# Altium integrated library Actel 3200DX.IntLib: 18 symbols (part 1 of 2)
Pins are listed as number, name and electrical type; pins without a type are passive.

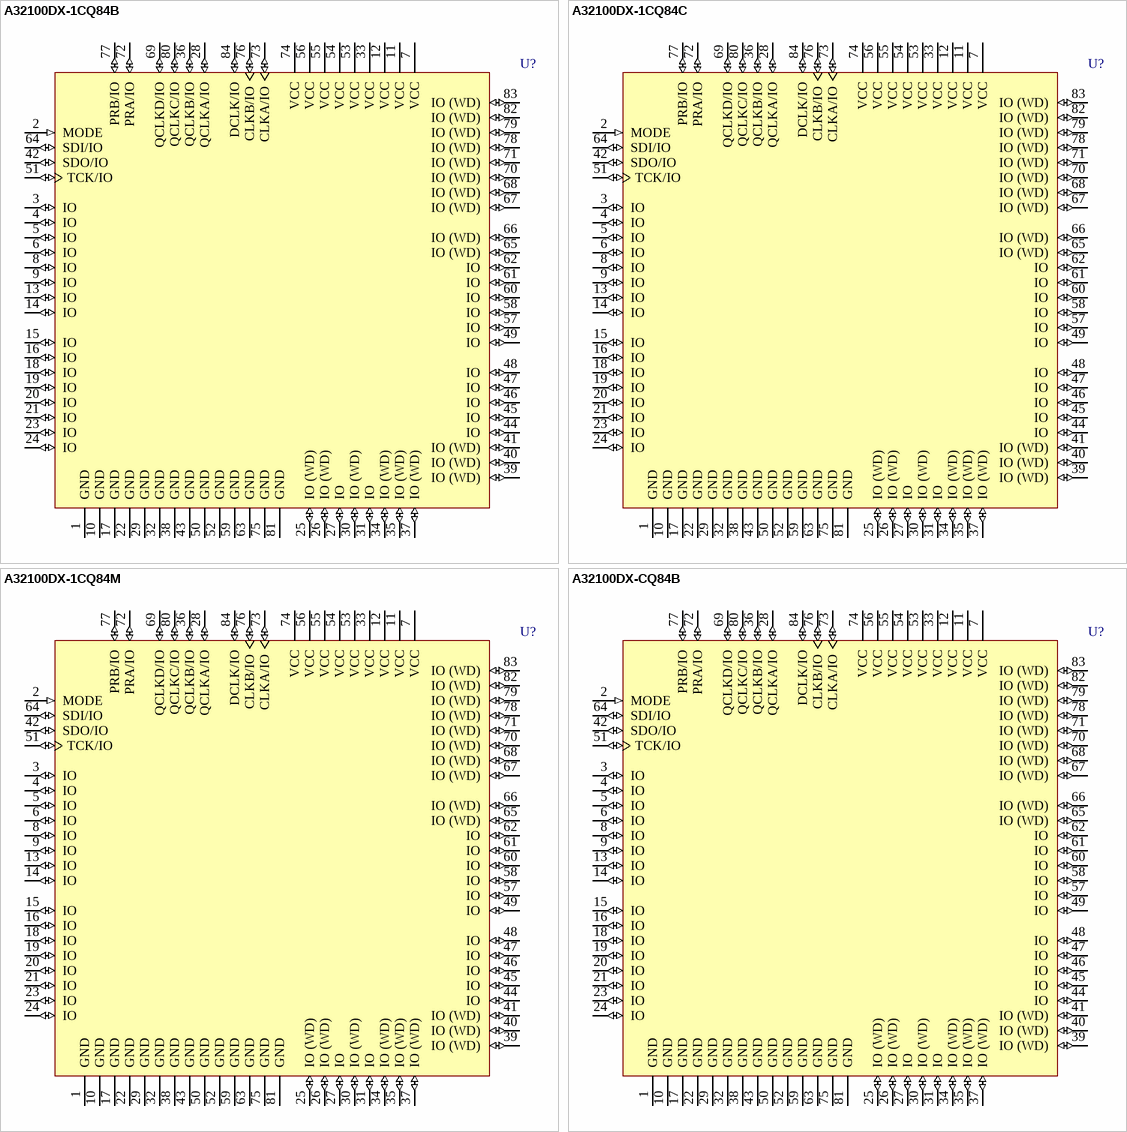
[diagram p0: symbols A32100DX-1CQ84B to A32100DX-CQ84B]

## A32100DX-1CQ84B
designator U?
3200DX Series FPGA, 60 User I/Os, 84 pin CQFP, Speed Grade 1, MIL-STD-883 Grade; Published: 17-Sep-2003; LatestRevisionDate: 13-Apr-2006; LatestRevisionNote: IPC-7351 Footprint Added.; DatasheetVersion: ver3.0, Jan-2000; PackageVersion: v9.2, Apr-2006; PackageReference: CQ84; Publisher: Altium Limited; PackageDescription: 84-Pin Ceramic Quad Flat Pack (CQFP); ComponentLink1Description: Manufacturer Link; ComponentLink1URL: http://www.actel.com/; ComponentLink2Description: Datasheet; ComponentLink2URL: http://www.actel.com/documents/HIRELDS.pdf
footprint CQ84_N (CQFP, 84-Leads, Body 16.5x16.5mm; Pitch 0.635mm, Gullwing Leadform, IPC Medium Density)
footprint CQ84_L (CQFP, 84-Leads, Body 16.5x16.5mm; Pitch 0.635mm, Gullwing Leadform, IPC High Density)
footprint CQ84_M (CQFP, 84-Leads, Body 16.5x16.5mm; Pitch 0.635mm, Gullwing Leadform, IPC Low Density)
3D model A32100DX-CQ84 (84-Pin Ceramic Quad Flat Pack (CQFP))
pins: 1 GND (power), 2 MODE (in), 3 IO (io), 4 IO (io), 5 IO (io), 6 IO (io), 7 VCC (power), 8 IO (io), 9 IO (io), 10 GND (power), 11 VCC (power), 12 VCC (power), 13 IO (io), 14 IO (io), 15 IO (io), 16 IO (io), 17 GND (power), 18 IO (io), 19 IO (io), 20 IO (io), 21 IO (io), 22 GND (power), 23 IO (io), 24 IO (io), 25 IO (WD) (io), 26 IO (WD) (io), 27 IO (io), 28 QCLKA/IO (io), 29 GND (power), 30 IO (WD) (io), 31 IO (io), 32 GND (power), 33 VCC (power), 34 IO (WD) (io), 35 IO (WD) (io), 36 QCLKB/IO (io), 37 IO (WD) (io), 38 GND (power), 39 IO (WD) (io), 40 IO (WD) (io), 41 IO (WD) (io), 42 SDO/IO (io), 43 GND (power), 44 IO (io), 45 IO (io), 46 IO (io), 47 IO (io), 48 IO (io), 49 IO (io), 50 GND (power), 51 TCK/IO (io), 52 GND (power), 53 VCC (power), 54 VCC (power), 55 VCC (power), 56 VCC (power), 57 IO (io), 58 IO (io), 59 GND (power), 60 IO (io), 61 IO (io), 62 IO (io), 63 GND (power), 64 SDI/IO (io), 65 IO (WD) (io), 66 IO (WD) (io), 67 IO (WD) (io), 68 IO (WD) (io), 69 QCLKD/IO (io), 70 IO (WD) (io), 71 IO (WD) (io), 72 PRA/IO (io), 73 CLKA/IO (io), 74 VCC (power), 75 GND (power), 76 CLKB/IO (io), 77 PRB/IO (io), 78 IO (WD) (io), 79 IO (WD) (io), 80 QCLKC/IO (io), 81 GND (power), 82 IO (WD) (io), 83 IO (WD) (io), 84 DCLK/IO (io)

## A32100DX-1CQ84C
designator U?
3200DX Series FPGA, 60 User I/Os, 84 pin CQFP, Speed Grade 1, Commercial Grade; Published: 17-Sep-2003; LatestRevisionDate: 13-Apr-2006; LatestRevisionNote: IPC-7351 Footprint Added.; DatasheetVersion: ver3.0, Jan-2000; PackageVersion: v9.2, Apr-2006; PackageReference: CQ84; Publisher: Altium Limited; PackageDescription: 84-Pin Ceramic Quad Flat Pack (CQFP); ComponentLink1Description: Manufacturer Link; ComponentLink1URL: http://www.actel.com/; ComponentLink2Description: Datasheet; ComponentLink2URL: http://www.actel.com/documents/HIRELDS.pdf
footprint CQ84_N (CQFP, 84-Leads, Body 16.5x16.5mm; Pitch 0.635mm, Gullwing Leadform, IPC Medium Density)
footprint CQ84_L (CQFP, 84-Leads, Body 16.5x16.5mm; Pitch 0.635mm, Gullwing Leadform, IPC High Density)
footprint CQ84_M (CQFP, 84-Leads, Body 16.5x16.5mm; Pitch 0.635mm, Gullwing Leadform, IPC Low Density)
3D model A32100DX-CQ84 (84-Pin Ceramic Quad Flat Pack (CQFP))
pins: 1 GND (power), 2 MODE (in), 3 IO (io), 4 IO (io), 5 IO (io), 6 IO (io), 7 VCC (power), 8 IO (io), 9 IO (io), 10 GND (power), 11 VCC (power), 12 VCC (power), 13 IO (io), 14 IO (io), 15 IO (io), 16 IO (io), 17 GND (power), 18 IO (io), 19 IO (io), 20 IO (io), 21 IO (io), 22 GND (power), 23 IO (io), 24 IO (io), 25 IO (WD) (io), 26 IO (WD) (io), 27 IO (io), 28 QCLKA/IO (io), 29 GND (power), 30 IO (WD) (io), 31 IO (io), 32 GND (power), 33 VCC (power), 34 IO (WD) (io), 35 IO (WD) (io), 36 QCLKB/IO (io), 37 IO (WD) (io), 38 GND (power), 39 IO (WD) (io), 40 IO (WD) (io), 41 IO (WD) (io), 42 SDO/IO (io), 43 GND (power), 44 IO (io), 45 IO (io), 46 IO (io), 47 IO (io), 48 IO (io), 49 IO (io), 50 GND (power), 51 TCK/IO (io), 52 GND (power), 53 VCC (power), 54 VCC (power), 55 VCC (power), 56 VCC (power), 57 IO (io), 58 IO (io), 59 GND (power), 60 IO (io), 61 IO (io), 62 IO (io), 63 GND (power), 64 SDI/IO (io), 65 IO (WD) (io), 66 IO (WD) (io), 67 IO (WD) (io), 68 IO (WD) (io), 69 QCLKD/IO (io), 70 IO (WD) (io), 71 IO (WD) (io), 72 PRA/IO (io), 73 CLKA/IO (io), 74 VCC (power), 75 GND (power), 76 CLKB/IO (io), 77 PRB/IO (io), 78 IO (WD) (io), 79 IO (WD) (io), 80 QCLKC/IO (io), 81 GND (power), 82 IO (WD) (io), 83 IO (WD) (io), 84 DCLK/IO (io)

## A32100DX-1CQ84M
designator U?
3200DX Series FPGA, 60 User I/Os, 84 pin CQFP, Speed Grade 1, Military Grade; Published: 17-Sep-2003; LatestRevisionDate: 13-Apr-2006; LatestRevisionNote: IPC-7351 Footprint Added.; DatasheetVersion: ver3.0, Jan-2000; PackageVersion: v9.2, Apr-2006; PackageReference: CQ84; Publisher: Altium Limited; PackageDescription: 84-Pin Ceramic Quad Flat Pack (CQFP); ComponentLink1Description: Manufacturer Link; ComponentLink1URL: http://www.actel.com/; ComponentLink2Description: Datasheet; ComponentLink2URL: http://www.actel.com/documents/HIRELDS.pdf
footprint CQ84_N (CQFP, 84-Leads, Body 16.5x16.5mm; Pitch 0.635mm, Gullwing Leadform, IPC Medium Density)
footprint CQ84_L (CQFP, 84-Leads, Body 16.5x16.5mm; Pitch 0.635mm, Gullwing Leadform, IPC High Density)
footprint CQ84_M (CQFP, 84-Leads, Body 16.5x16.5mm; Pitch 0.635mm, Gullwing Leadform, IPC Low Density)
3D model A32100DX-CQ84 (84-Pin Ceramic Quad Flat Pack (CQFP))
pins: 1 GND (power), 2 MODE (in), 3 IO (io), 4 IO (io), 5 IO (io), 6 IO (io), 7 VCC (power), 8 IO (io), 9 IO (io), 10 GND (power), 11 VCC (power), 12 VCC (power), 13 IO (io), 14 IO (io), 15 IO (io), 16 IO (io), 17 GND (power), 18 IO (io), 19 IO (io), 20 IO (io), 21 IO (io), 22 GND (power), 23 IO (io), 24 IO (io), 25 IO (WD) (io), 26 IO (WD) (io), 27 IO (io), 28 QCLKA/IO (io), 29 GND (power), 30 IO (WD) (io), 31 IO (io), 32 GND (power), 33 VCC (power), 34 IO (WD) (io), 35 IO (WD) (io), 36 QCLKB/IO (io), 37 IO (WD) (io), 38 GND (power), 39 IO (WD) (io), 40 IO (WD) (io), 41 IO (WD) (io), 42 SDO/IO (io), 43 GND (power), 44 IO (io), 45 IO (io), 46 IO (io), 47 IO (io), 48 IO (io), 49 IO (io), 50 GND (power), 51 TCK/IO (io), 52 GND (power), 53 VCC (power), 54 VCC (power), 55 VCC (power), 56 VCC (power), 57 IO (io), 58 IO (io), 59 GND (power), 60 IO (io), 61 IO (io), 62 IO (io), 63 GND (power), 64 SDI/IO (io), 65 IO (WD) (io), 66 IO (WD) (io), 67 IO (WD) (io), 68 IO (WD) (io), 69 QCLKD/IO (io), 70 IO (WD) (io), 71 IO (WD) (io), 72 PRA/IO (io), 73 CLKA/IO (io), 74 VCC (power), 75 GND (power), 76 CLKB/IO (io), 77 PRB/IO (io), 78 IO (WD) (io), 79 IO (WD) (io), 80 QCLKC/IO (io), 81 GND (power), 82 IO (WD) (io), 83 IO (WD) (io), 84 DCLK/IO (io)

## A32100DX-CQ84B
designator U?
3200DX Series FPGA, 60 User I/Os, 84 pin CQFP, Standard Speed Grade, MIL-STD-883 Grade; Published: 17-Sep-2003; LatestRevisionDate: 13-Apr-2006; LatestRevisionNote: IPC-7351 Footprint Added.; DatasheetVersion: ver3.0, Jan-2000; PackageVersion: v9.2, Apr-2006; PackageReference: CQ84; Publisher: Altium Limited; PackageDescription: 84-Pin Ceramic Quad Flat Pack (CQFP); ComponentLink1Description: Manufacturer Link; ComponentLink1URL: http://www.actel.com/; ComponentLink2Description: Datasheet; ComponentLink2URL: http://www.actel.com/documents/HIRELDS.pdf
footprint CQ84_N (CQFP, 84-Leads, Body 16.5x16.5mm; Pitch 0.635mm, Gullwing Leadform, IPC Medium Density)
footprint CQ84_L (CQFP, 84-Leads, Body 16.5x16.5mm; Pitch 0.635mm, Gullwing Leadform, IPC High Density)
footprint CQ84_M (CQFP, 84-Leads, Body 16.5x16.5mm; Pitch 0.635mm, Gullwing Leadform, IPC Low Density)
3D model A32100DX-CQ84 (84-Pin Ceramic Quad Flat Pack (CQFP))
pins: 1 GND (power), 2 MODE (in), 3 IO (io), 4 IO (io), 5 IO (io), 6 IO (io), 7 VCC (power), 8 IO (io), 9 IO (io), 10 GND (power), 11 VCC (power), 12 VCC (power), 13 IO (io), 14 IO (io), 15 IO (io), 16 IO (io), 17 GND (power), 18 IO (io), 19 IO (io), 20 IO (io), 21 IO (io), 22 GND (power), 23 IO (io), 24 IO (io), 25 IO (WD) (io), 26 IO (WD) (io), 27 IO (io), 28 QCLKA/IO (io), 29 GND (power), 30 IO (WD) (io), 31 IO (io), 32 GND (power), 33 VCC (power), 34 IO (WD) (io), 35 IO (WD) (io), 36 QCLKB/IO (io), 37 IO (WD) (io), 38 GND (power), 39 IO (WD) (io), 40 IO (WD) (io), 41 IO (WD) (io), 42 SDO/IO (io), 43 GND (power), 44 IO (io), 45 IO (io), 46 IO (io), 47 IO (io), 48 IO (io), 49 IO (io), 50 GND (power), 51 TCK/IO (io), 52 GND (power), 53 VCC (power), 54 VCC (power), 55 VCC (power), 56 VCC (power), 57 IO (io), 58 IO (io), 59 GND (power), 60 IO (io), 61 IO (io), 62 IO (io), 63 GND (power), 64 SDI/IO (io), 65 IO (WD) (io), 66 IO (WD) (io), 67 IO (WD) (io), 68 IO (WD) (io), 69 QCLKD/IO (io), 70 IO (WD) (io), 71 IO (WD) (io), 72 PRA/IO (io), 73 CLKA/IO (io), 74 VCC (power), 75 GND (power), 76 CLKB/IO (io), 77 PRB/IO (io), 78 IO (WD) (io), 79 IO (WD) (io), 80 QCLKC/IO (io), 81 GND (power), 82 IO (WD) (io), 83 IO (WD) (io), 84 DCLK/IO (io)

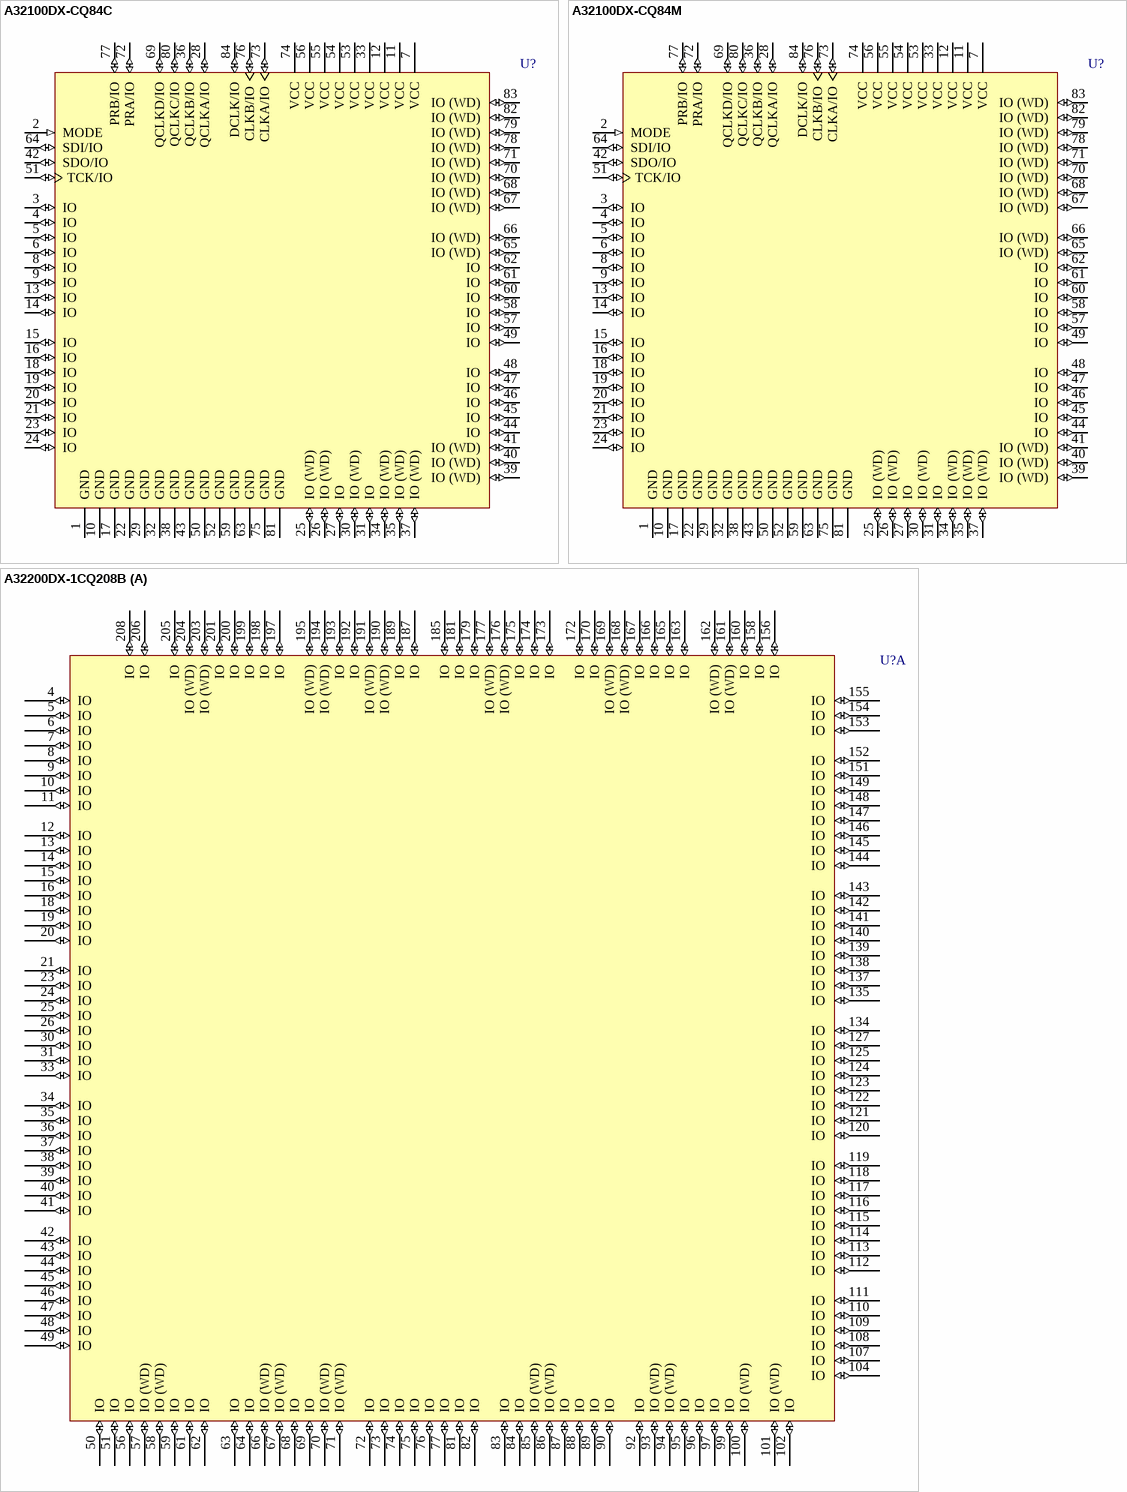
[diagram p1: symbols A32100DX-CQ84C to A32200DX-1CQ208B]

## A32100DX-CQ84C
designator U?
3200DX Series FPGA, 60 User I/Os, 84 pin CQFP, Standard Speed Grade, Commercial Grade; Published: 17-Sep-2003; LatestRevisionDate: 13-Apr-2006; LatestRevisionNote: IPC-7351 Footprint Added.; DatasheetVersion: ver3.0, Jan-2000; PackageVersion: v9.2, Apr-2006; PackageReference: CQ84; Publisher: Altium Limited; PackageDescription: 84-Pin Ceramic Quad Flat Pack (CQFP); ComponentLink1Description: Manufacturer Link; ComponentLink1URL: http://www.actel.com/; ComponentLink2Description: Datasheet; ComponentLink2URL: http://www.actel.com/documents/HIRELDS.pdf
footprint CQ84_N (CQFP, 84-Leads, Body 16.5x16.5mm; Pitch 0.635mm, Gullwing Leadform, IPC Medium Density)
footprint CQ84_L (CQFP, 84-Leads, Body 16.5x16.5mm; Pitch 0.635mm, Gullwing Leadform, IPC High Density)
footprint CQ84_M (CQFP, 84-Leads, Body 16.5x16.5mm; Pitch 0.635mm, Gullwing Leadform, IPC Low Density)
3D model A32100DX-CQ84 (84-Pin Ceramic Quad Flat Pack (CQFP))
pins: 1 GND (power), 2 MODE (in), 3 IO (io), 4 IO (io), 5 IO (io), 6 IO (io), 7 VCC (power), 8 IO (io), 9 IO (io), 10 GND (power), 11 VCC (power), 12 VCC (power), 13 IO (io), 14 IO (io), 15 IO (io), 16 IO (io), 17 GND (power), 18 IO (io), 19 IO (io), 20 IO (io), 21 IO (io), 22 GND (power), 23 IO (io), 24 IO (io), 25 IO (WD) (io), 26 IO (WD) (io), 27 IO (io), 28 QCLKA/IO (io), 29 GND (power), 30 IO (WD) (io), 31 IO (io), 32 GND (power), 33 VCC (power), 34 IO (WD) (io), 35 IO (WD) (io), 36 QCLKB/IO (io), 37 IO (WD) (io), 38 GND (power), 39 IO (WD) (io), 40 IO (WD) (io), 41 IO (WD) (io), 42 SDO/IO (io), 43 GND (power), 44 IO (io), 45 IO (io), 46 IO (io), 47 IO (io), 48 IO (io), 49 IO (io), 50 GND (power), 51 TCK/IO (io), 52 GND (power), 53 VCC (power), 54 VCC (power), 55 VCC (power), 56 VCC (power), 57 IO (io), 58 IO (io), 59 GND (power), 60 IO (io), 61 IO (io), 62 IO (io), 63 GND (power), 64 SDI/IO (io), 65 IO (WD) (io), 66 IO (WD) (io), 67 IO (WD) (io), 68 IO (WD) (io), 69 QCLKD/IO (io), 70 IO (WD) (io), 71 IO (WD) (io), 72 PRA/IO (io), 73 CLKA/IO (io), 74 VCC (power), 75 GND (power), 76 CLKB/IO (io), 77 PRB/IO (io), 78 IO (WD) (io), 79 IO (WD) (io), 80 QCLKC/IO (io), 81 GND (power), 82 IO (WD) (io), 83 IO (WD) (io), 84 DCLK/IO (io)

## A32100DX-CQ84M
designator U?
3200DX Series FPGA, 60 User I/Os, 84 pin CQFP, Standard Speed Grade, Military Grade; Published: 17-Sep-2003; LatestRevisionDate: 13-Apr-2006; LatestRevisionNote: IPC-7351 Footprint Added.; DatasheetVersion: ver3.0, Jan-2000; PackageVersion: v9.2, Apr-2006; PackageReference: CQ84; Publisher: Altium Limited; PackageDescription: 84-Pin Ceramic Quad Flat Pack (CQFP); ComponentLink1Description: Manufacturer Link; ComponentLink1URL: http://www.actel.com/; ComponentLink2Description: Datasheet; ComponentLink2URL: http://www.actel.com/documents/HIRELDS.pdf
footprint CQ84_N (CQFP, 84-Leads, Body 16.5x16.5mm; Pitch 0.635mm, Gullwing Leadform, IPC Medium Density)
footprint CQ84_L (CQFP, 84-Leads, Body 16.5x16.5mm; Pitch 0.635mm, Gullwing Leadform, IPC High Density)
footprint CQ84_M (CQFP, 84-Leads, Body 16.5x16.5mm; Pitch 0.635mm, Gullwing Leadform, IPC Low Density)
3D model A32100DX-CQ84 (84-Pin Ceramic Quad Flat Pack (CQFP))
pins: 1 GND (power), 2 MODE (in), 3 IO (io), 4 IO (io), 5 IO (io), 6 IO (io), 7 VCC (power), 8 IO (io), 9 IO (io), 10 GND (power), 11 VCC (power), 12 VCC (power), 13 IO (io), 14 IO (io), 15 IO (io), 16 IO (io), 17 GND (power), 18 IO (io), 19 IO (io), 20 IO (io), 21 IO (io), 22 GND (power), 23 IO (io), 24 IO (io), 25 IO (WD) (io), 26 IO (WD) (io), 27 IO (io), 28 QCLKA/IO (io), 29 GND (power), 30 IO (WD) (io), 31 IO (io), 32 GND (power), 33 VCC (power), 34 IO (WD) (io), 35 IO (WD) (io), 36 QCLKB/IO (io), 37 IO (WD) (io), 38 GND (power), 39 IO (WD) (io), 40 IO (WD) (io), 41 IO (WD) (io), 42 SDO/IO (io), 43 GND (power), 44 IO (io), 45 IO (io), 46 IO (io), 47 IO (io), 48 IO (io), 49 IO (io), 50 GND (power), 51 TCK/IO (io), 52 GND (power), 53 VCC (power), 54 VCC (power), 55 VCC (power), 56 VCC (power), 57 IO (io), 58 IO (io), 59 GND (power), 60 IO (io), 61 IO (io), 62 IO (io), 63 GND (power), 64 SDI/IO (io), 65 IO (WD) (io), 66 IO (WD) (io), 67 IO (WD) (io), 68 IO (WD) (io), 69 QCLKD/IO (io), 70 IO (WD) (io), 71 IO (WD) (io), 72 PRA/IO (io), 73 CLKA/IO (io), 74 VCC (power), 75 GND (power), 76 CLKB/IO (io), 77 PRB/IO (io), 78 IO (WD) (io), 79 IO (WD) (io), 80 QCLKC/IO (io), 81 GND (power), 82 IO (WD) (io), 83 IO (WD) (io), 84 DCLK/IO (io)

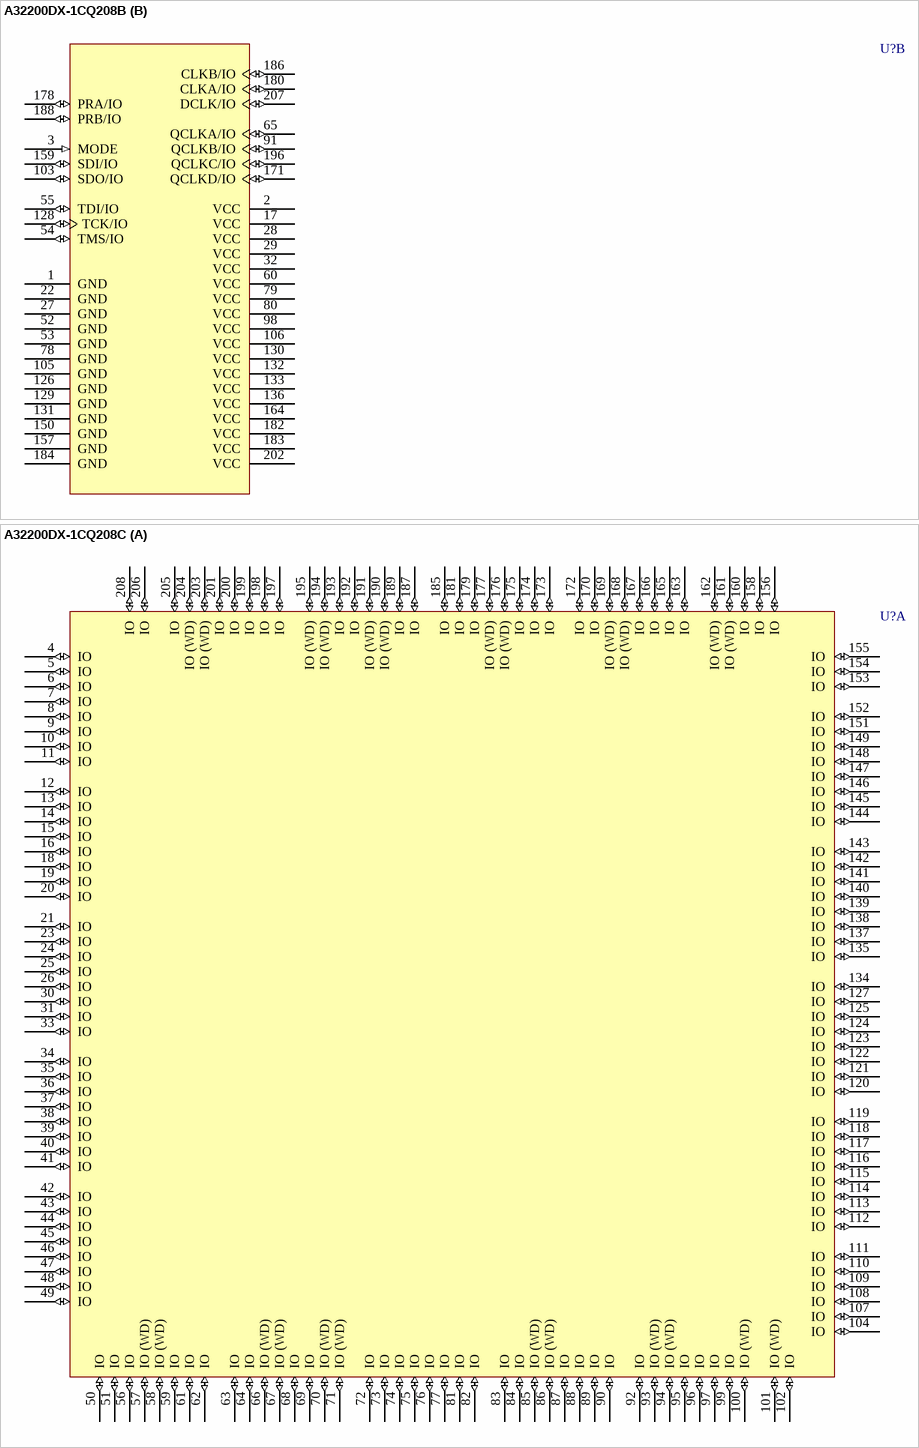
[diagram p2: symbols A32200DX-1CQ208B to A32200DX-1CQ208C]

## A32200DX-1CQ208B
designator U?
3200DX Series FPGA, 176 User I/Os, 208 pin CQFP, Speed Grade 1, MIL-STD-883 Grade; Published: 17-Sep-2003; LatestRevisionDate: 13-Apr-2006; LatestRevisionNote: IPC-7351 Footprint Added.; DatasheetVersion: ver3.0, Jan-2000; PackageVersion: v9.2, Apr-2006; PackageReference: CQ208; Publisher: Altium Limited; PackageDescription: 208-Pin Ceramic Quad Flat Pack (CQFP); ComponentLink1Description: Manufacturer Link; ComponentLink1URL: http://www.actel.com/; ComponentLink2Description: Datasheet; ComponentLink2URL: http://www.actel.com/documents/HIRELDS.pdf
footprint CQ208_N (CQFP, 208-Leads, Body 29x29mm; Pitch 0.5mm, Gullwing Leadform, IPC Medium Density)
footprint CQ208_L (CQFP, 208-Leads, Body 29x29mm; Pitch 0.5mm, Gullwing Leadform, IPC High Density)
footprint CQ208_M (CQFP, 208-Leads, Body 29x29mm; Pitch 0.5mm, Gullwing Leadform, IPC Low Density)
3D model A32200DX-CQ208 (208-Pin Ceramic Quad Flat Pack (CQFP))
part A pins: 4 IO (io), 5 IO (io), 6 IO (io), 7 IO (io), 8 IO (io), 9 IO (io), 10 IO (io), 11 IO (io), 12 IO (io), 13 IO (io), 14 IO (io), 15 IO (io), 16 IO (io), 18 IO (io), 19 IO (io), 20 IO (io), 21 IO (io), 23 IO (io), 24 IO (io), 25 IO (io), 26 IO (io), 30 IO (io), 31 IO (io), 33 IO (io), 34 IO (io), 35 IO (io), 36 IO (io), 37 IO (io), 38 IO (io), 39 IO (io), 40 IO (io), 41 IO (io), 42 IO (io), 43 IO (io), 44 IO (io), 45 IO (io), 46 IO (io), 47 IO (io), 48 IO (io), 49 IO (io), 50 IO (io), 51 IO (io), 56 IO (io), 57 IO (WD) (io), 58 IO (WD) (io), 59 IO (io), 61 IO (io), 62 IO (io), 63 IO (io), 64 IO (io), 66 IO (WD) (io), 67 IO (WD) (io), 68 IO (io), 69 IO (io), 70 IO (WD) (io), 71 IO (WD) (io), 72 IO (io), 73 IO (io), 74 IO (io), 75 IO (io), 76 IO (io), 77 IO (io), 81 IO (io), 82 IO (io), 83 IO (io), 84 IO (io), 85 IO (WD) (io), 86 IO (WD) (io), 87 IO (io), 88 IO (io), 89 IO (io), 90 IO (io), 92 IO (io), 93 IO (WD) (io), 94 IO (WD) (io), 95 IO (io), 96 IO (io), 97 IO (io), 99 IO (io), 100 IO (WD) (io), 101 IO (WD) (io), 102 IO (io), 104 IO (io), 107 IO (io), 108 IO (io), 109 IO (io), 110 IO (io), 111 IO (io), 112 IO (io), 113 IO (io), 114 IO (io), 115 IO (io), 116 IO (io), 117 IO (io), 118 IO (io), 119 IO (io), 120 IO (io), 121 IO (io), 122 IO (io), 123 IO (io), 124 IO (io), 125 IO (io), 127 IO (io), 134 IO (io), 135 IO (io), 137 IO (io), 138 IO (io), 139 IO (io), 140 IO (io), 141 IO (io), 142 IO (io), 143 IO (io), 144 IO (io), 145 IO (io), 146 IO (io), 147 IO (io), 148 IO (io), 149 IO (io), 151 IO (io), 152 IO (io), 153 IO (io), 154 IO (io), 155 IO (io), 156 IO (io), 158 IO (io), 160 IO (io), 161 IO (WD) (io), 162 IO (WD) (io), 163 IO (io), 165 IO (io), 166 IO (io), 167 IO (io), 168 IO (WD) (io), 169 IO (WD) (io), 170 IO (io), 172 IO (io), 173 IO (io), 174 IO (io), 175 IO (io), 176 IO (WD) (io), 177 IO (WD) (io), 179 IO (io), 181 IO (io), 185 IO (io), 187 IO (io), 189 IO (io), 190 IO (WD) (io), 191 IO (WD) (io), 192 IO (io), 193 IO (io), 194 IO (WD) (io), 195 IO (WD) (io), 197 IO (io), 198 IO (io), 199 IO (io), 200 IO (io), 201 IO (io), 203 IO (WD) (io), 204 IO (WD) (io), 205 IO (io), 206 IO (io), 208 IO (io)
part B pins: 1 GND (power), 2 VCC (power), 3 MODE (in), 17 VCC (power), 22 GND (power), 27 GND (power), 28 VCC (power), 29 VCC (power), 32 VCC (power), 52 GND (power), 53 GND (power), 54 TMS/IO (io), 55 TDI/IO (io), 60 VCC (power), 65 QCLKA/IO (io), 78 GND (power), 79 VCC (power), 80 VCC (power), 91 QCLKB/IO (io), 98 VCC (power), 103 SDO/IO (io), 105 GND (power), 106 VCC (power), 126 GND (power), 128 TCK/IO (io), 129 GND (power), 130 VCC (power), 131 GND (power), 132 VCC (power), 133 VCC (power), 136 VCC (power), 150 GND (power), 157 GND (power), 159 SDI/IO (io), 164 VCC (power), 171 QCLKD/IO (io), 178 PRA/IO (io), 180 CLKA/IO (io), 182 VCC (power), 183 VCC (power), 184 GND (power), 186 CLKB/IO (io), 188 PRB/IO (io), 196 QCLKC/IO (io), 202 VCC (power), 207 DCLK/IO (io)

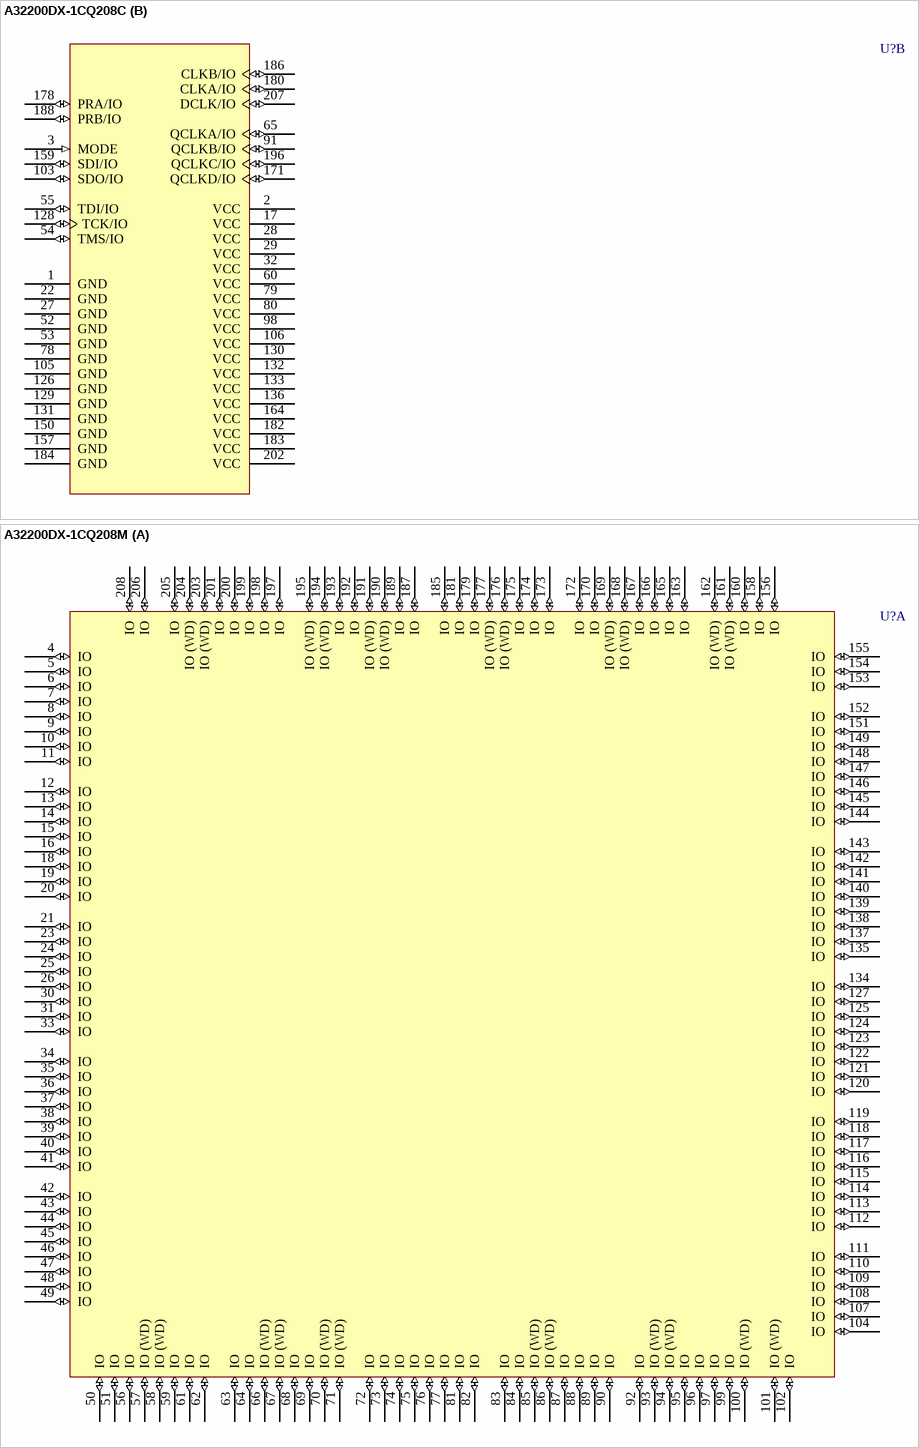
[diagram p3: symbols A32200DX-1CQ208C to A32200DX-1CQ208M]

## A32200DX-1CQ208C
designator U?
3200DX Series FPGA, 176 User I/Os, 208 pin CQFP, Speed Grade 1, Commercial Grade; Published: 17-Sep-2003; LatestRevisionDate: 13-Apr-2006; LatestRevisionNote: IPC-7351 Footprint Added.; DatasheetVersion: ver3.0, Jan-2000; PackageVersion: v9.2, Apr-2006; PackageReference: CQ208; Publisher: Altium Limited; PackageDescription: 208-Pin Ceramic Quad Flat Pack (CQFP); ComponentLink1Description: Manufacturer Link; ComponentLink1URL: http://www.actel.com/; ComponentLink2Description: Datasheet; ComponentLink2URL: http://www.actel.com/documents/HIRELDS.pdf
footprint CQ208_N (CQFP, 208-Leads, Body 29x29mm; Pitch 0.5mm, Gullwing Leadform, IPC Medium Density)
footprint CQ208_L (CQFP, 208-Leads, Body 29x29mm; Pitch 0.5mm, Gullwing Leadform, IPC High Density)
footprint CQ208_M (CQFP, 208-Leads, Body 29x29mm; Pitch 0.5mm, Gullwing Leadform, IPC Low Density)
3D model A32200DX-CQ208 (208-Pin Ceramic Quad Flat Pack (CQFP))
part A pins: 4 IO (io), 5 IO (io), 6 IO (io), 7 IO (io), 8 IO (io), 9 IO (io), 10 IO (io), 11 IO (io), 12 IO (io), 13 IO (io), 14 IO (io), 15 IO (io), 16 IO (io), 18 IO (io), 19 IO (io), 20 IO (io), 21 IO (io), 23 IO (io), 24 IO (io), 25 IO (io), 26 IO (io), 30 IO (io), 31 IO (io), 33 IO (io), 34 IO (io), 35 IO (io), 36 IO (io), 37 IO (io), 38 IO (io), 39 IO (io), 40 IO (io), 41 IO (io), 42 IO (io), 43 IO (io), 44 IO (io), 45 IO (io), 46 IO (io), 47 IO (io), 48 IO (io), 49 IO (io), 50 IO (io), 51 IO (io), 56 IO (io), 57 IO (WD) (io), 58 IO (WD) (io), 59 IO (io), 61 IO (io), 62 IO (io), 63 IO (io), 64 IO (io), 66 IO (WD) (io), 67 IO (WD) (io), 68 IO (io), 69 IO (io), 70 IO (WD) (io), 71 IO (WD) (io), 72 IO (io), 73 IO (io), 74 IO (io), 75 IO (io), 76 IO (io), 77 IO (io), 81 IO (io), 82 IO (io), 83 IO (io), 84 IO (io), 85 IO (WD) (io), 86 IO (WD) (io), 87 IO (io), 88 IO (io), 89 IO (io), 90 IO (io), 92 IO (io), 93 IO (WD) (io), 94 IO (WD) (io), 95 IO (io), 96 IO (io), 97 IO (io), 99 IO (io), 100 IO (WD) (io), 101 IO (WD) (io), 102 IO (io), 104 IO (io), 107 IO (io), 108 IO (io), 109 IO (io), 110 IO (io), 111 IO (io), 112 IO (io), 113 IO (io), 114 IO (io), 115 IO (io), 116 IO (io), 117 IO (io), 118 IO (io), 119 IO (io), 120 IO (io), 121 IO (io), 122 IO (io), 123 IO (io), 124 IO (io), 125 IO (io), 127 IO (io), 134 IO (io), 135 IO (io), 137 IO (io), 138 IO (io), 139 IO (io), 140 IO (io), 141 IO (io), 142 IO (io), 143 IO (io), 144 IO (io), 145 IO (io), 146 IO (io), 147 IO (io), 148 IO (io), 149 IO (io), 151 IO (io), 152 IO (io), 153 IO (io), 154 IO (io), 155 IO (io), 156 IO (io), 158 IO (io), 160 IO (io), 161 IO (WD) (io), 162 IO (WD) (io), 163 IO (io), 165 IO (io), 166 IO (io), 167 IO (io), 168 IO (WD) (io), 169 IO (WD) (io), 170 IO (io), 172 IO (io), 173 IO (io), 174 IO (io), 175 IO (io), 176 IO (WD) (io), 177 IO (WD) (io), 179 IO (io), 181 IO (io), 185 IO (io), 187 IO (io), 189 IO (io), 190 IO (WD) (io), 191 IO (WD) (io), 192 IO (io), 193 IO (io), 194 IO (WD) (io), 195 IO (WD) (io), 197 IO (io), 198 IO (io), 199 IO (io), 200 IO (io), 201 IO (io), 203 IO (WD) (io), 204 IO (WD) (io), 205 IO (io), 206 IO (io), 208 IO (io)
part B pins: 1 GND (power), 2 VCC (power), 3 MODE (in), 17 VCC (power), 22 GND (power), 27 GND (power), 28 VCC (power), 29 VCC (power), 32 VCC (power), 52 GND (power), 53 GND (power), 54 TMS/IO (io), 55 TDI/IO (io), 60 VCC (power), 65 QCLKA/IO (io), 78 GND (power), 79 VCC (power), 80 VCC (power), 91 QCLKB/IO (io), 98 VCC (power), 103 SDO/IO (io), 105 GND (power), 106 VCC (power), 126 GND (power), 128 TCK/IO (io), 129 GND (power), 130 VCC (power), 131 GND (power), 132 VCC (power), 133 VCC (power), 136 VCC (power), 150 GND (power), 157 GND (power), 159 SDI/IO (io), 164 VCC (power), 171 QCLKD/IO (io), 178 PRA/IO (io), 180 CLKA/IO (io), 182 VCC (power), 183 VCC (power), 184 GND (power), 186 CLKB/IO (io), 188 PRB/IO (io), 196 QCLKC/IO (io), 202 VCC (power), 207 DCLK/IO (io)

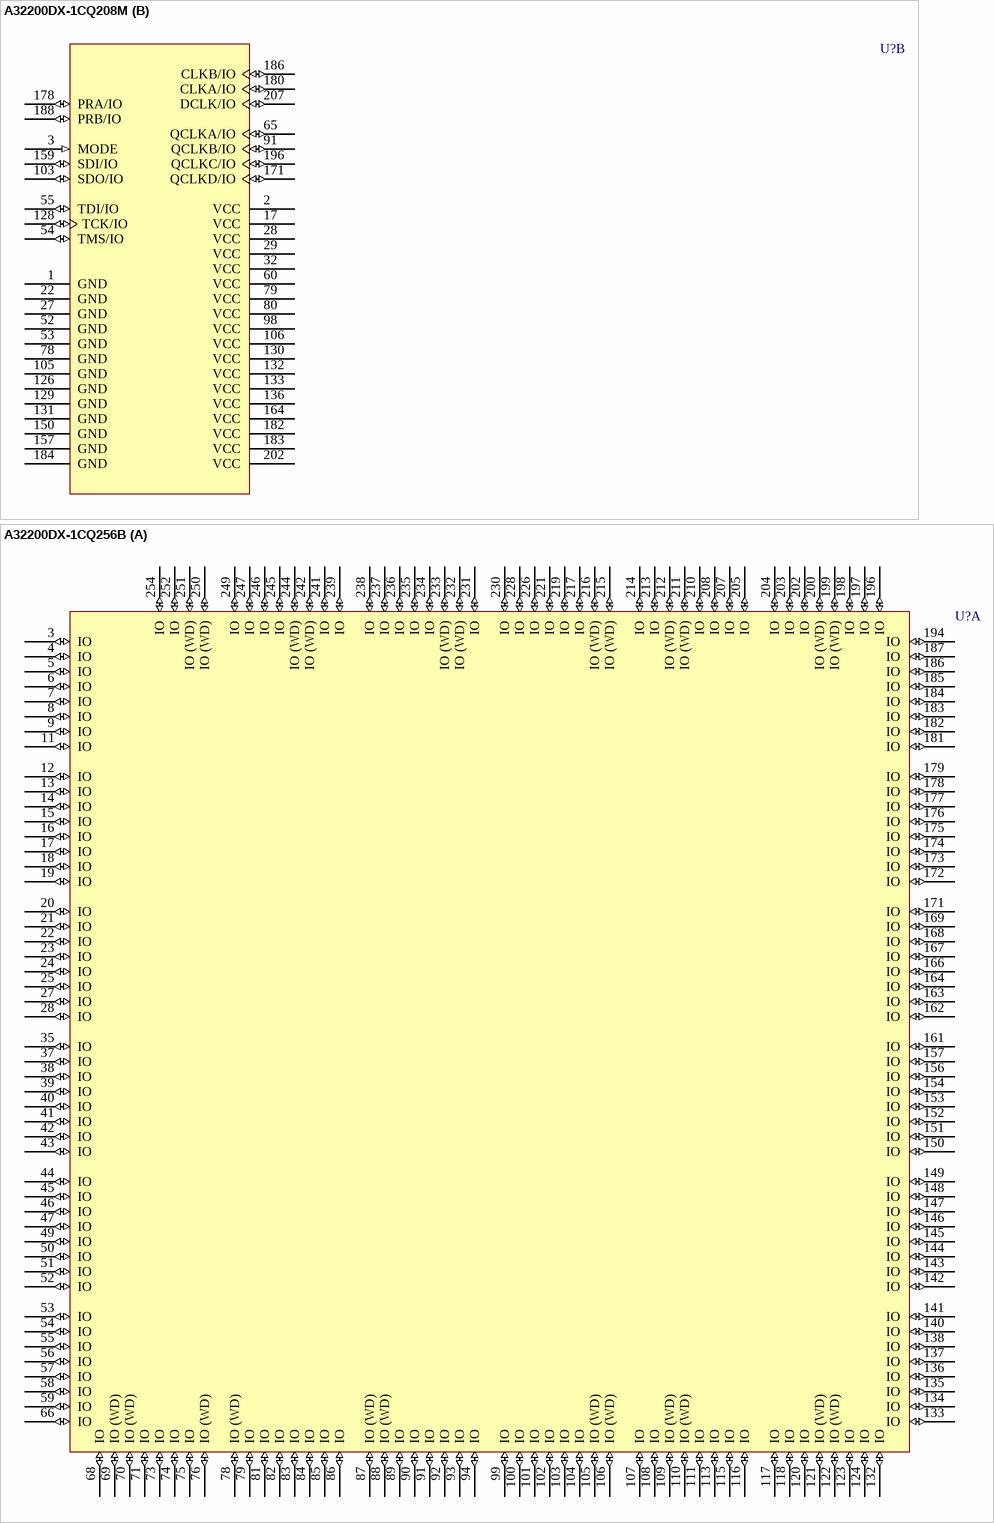
[diagram p4: symbols A32200DX-1CQ208M to A32200DX-1CQ256B]

## A32200DX-1CQ208M
designator U?
3200DX Series FPGA, 176 User I/Os, 208 pin CQFP, Speed Grade 1, Military Grade; Published: 17-Sep-2003; LatestRevisionDate: 13-Apr-2006; LatestRevisionNote: IPC-7351 Footprint Added.; DatasheetVersion: ver3.0, Jan-2000; PackageVersion: v9.2, Apr-2006; PackageReference: CQ208; Publisher: Altium Limited; PackageDescription: 208-Pin Ceramic Quad Flat Pack (CQFP); ComponentLink1Description: Manufacturer Link; ComponentLink1URL: http://www.actel.com/; ComponentLink2Description: Datasheet; ComponentLink2URL: http://www.actel.com/documents/HIRELDS.pdf
footprint CQ208_N (CQFP, 208-Leads, Body 29x29mm; Pitch 0.5mm, Gullwing Leadform, IPC Medium Density)
footprint CQ208_L (CQFP, 208-Leads, Body 29x29mm; Pitch 0.5mm, Gullwing Leadform, IPC High Density)
footprint CQ208_M (CQFP, 208-Leads, Body 29x29mm; Pitch 0.5mm, Gullwing Leadform, IPC Low Density)
3D model A32200DX-CQ208 (208-Pin Ceramic Quad Flat Pack (CQFP))
part A pins: 4 IO (io), 5 IO (io), 6 IO (io), 7 IO (io), 8 IO (io), 9 IO (io), 10 IO (io), 11 IO (io), 12 IO (io), 13 IO (io), 14 IO (io), 15 IO (io), 16 IO (io), 18 IO (io), 19 IO (io), 20 IO (io), 21 IO (io), 23 IO (io), 24 IO (io), 25 IO (io), 26 IO (io), 30 IO (io), 31 IO (io), 33 IO (io), 34 IO (io), 35 IO (io), 36 IO (io), 37 IO (io), 38 IO (io), 39 IO (io), 40 IO (io), 41 IO (io), 42 IO (io), 43 IO (io), 44 IO (io), 45 IO (io), 46 IO (io), 47 IO (io), 48 IO (io), 49 IO (io), 50 IO (io), 51 IO (io), 56 IO (io), 57 IO (WD) (io), 58 IO (WD) (io), 59 IO (io), 61 IO (io), 62 IO (io), 63 IO (io), 64 IO (io), 66 IO (WD) (io), 67 IO (WD) (io), 68 IO (io), 69 IO (io), 70 IO (WD) (io), 71 IO (WD) (io), 72 IO (io), 73 IO (io), 74 IO (io), 75 IO (io), 76 IO (io), 77 IO (io), 81 IO (io), 82 IO (io), 83 IO (io), 84 IO (io), 85 IO (WD) (io), 86 IO (WD) (io), 87 IO (io), 88 IO (io), 89 IO (io), 90 IO (io), 92 IO (io), 93 IO (WD) (io), 94 IO (WD) (io), 95 IO (io), 96 IO (io), 97 IO (io), 99 IO (io), 100 IO (WD) (io), 101 IO (WD) (io), 102 IO (io), 104 IO (io), 107 IO (io), 108 IO (io), 109 IO (io), 110 IO (io), 111 IO (io), 112 IO (io), 113 IO (io), 114 IO (io), 115 IO (io), 116 IO (io), 117 IO (io), 118 IO (io), 119 IO (io), 120 IO (io), 121 IO (io), 122 IO (io), 123 IO (io), 124 IO (io), 125 IO (io), 127 IO (io), 134 IO (io), 135 IO (io), 137 IO (io), 138 IO (io), 139 IO (io), 140 IO (io), 141 IO (io), 142 IO (io), 143 IO (io), 144 IO (io), 145 IO (io), 146 IO (io), 147 IO (io), 148 IO (io), 149 IO (io), 151 IO (io), 152 IO (io), 153 IO (io), 154 IO (io), 155 IO (io), 156 IO (io), 158 IO (io), 160 IO (io), 161 IO (WD) (io), 162 IO (WD) (io), 163 IO (io), 165 IO (io), 166 IO (io), 167 IO (io), 168 IO (WD) (io), 169 IO (WD) (io), 170 IO (io), 172 IO (io), 173 IO (io), 174 IO (io), 175 IO (io), 176 IO (WD) (io), 177 IO (WD) (io), 179 IO (io), 181 IO (io), 185 IO (io), 187 IO (io), 189 IO (io), 190 IO (WD) (io), 191 IO (WD) (io), 192 IO (io), 193 IO (io), 194 IO (WD) (io), 195 IO (WD) (io), 197 IO (io), 198 IO (io), 199 IO (io), 200 IO (io), 201 IO (io), 203 IO (WD) (io), 204 IO (WD) (io), 205 IO (io), 206 IO (io), 208 IO (io)
part B pins: 1 GND (power), 2 VCC (power), 3 MODE (in), 17 VCC (power), 22 GND (power), 27 GND (power), 28 VCC (power), 29 VCC (power), 32 VCC (power), 52 GND (power), 53 GND (power), 54 TMS/IO (io), 55 TDI/IO (io), 60 VCC (power), 65 QCLKA/IO (io), 78 GND (power), 79 VCC (power), 80 VCC (power), 91 QCLKB/IO (io), 98 VCC (power), 103 SDO/IO (io), 105 GND (power), 106 VCC (power), 126 GND (power), 128 TCK/IO (io), 129 GND (power), 130 VCC (power), 131 GND (power), 132 VCC (power), 133 VCC (power), 136 VCC (power), 150 GND (power), 157 GND (power), 159 SDI/IO (io), 164 VCC (power), 171 QCLKD/IO (io), 178 PRA/IO (io), 180 CLKA/IO (io), 182 VCC (power), 183 VCC (power), 184 GND (power), 186 CLKB/IO (io), 188 PRB/IO (io), 196 QCLKC/IO (io), 202 VCC (power), 207 DCLK/IO (io)

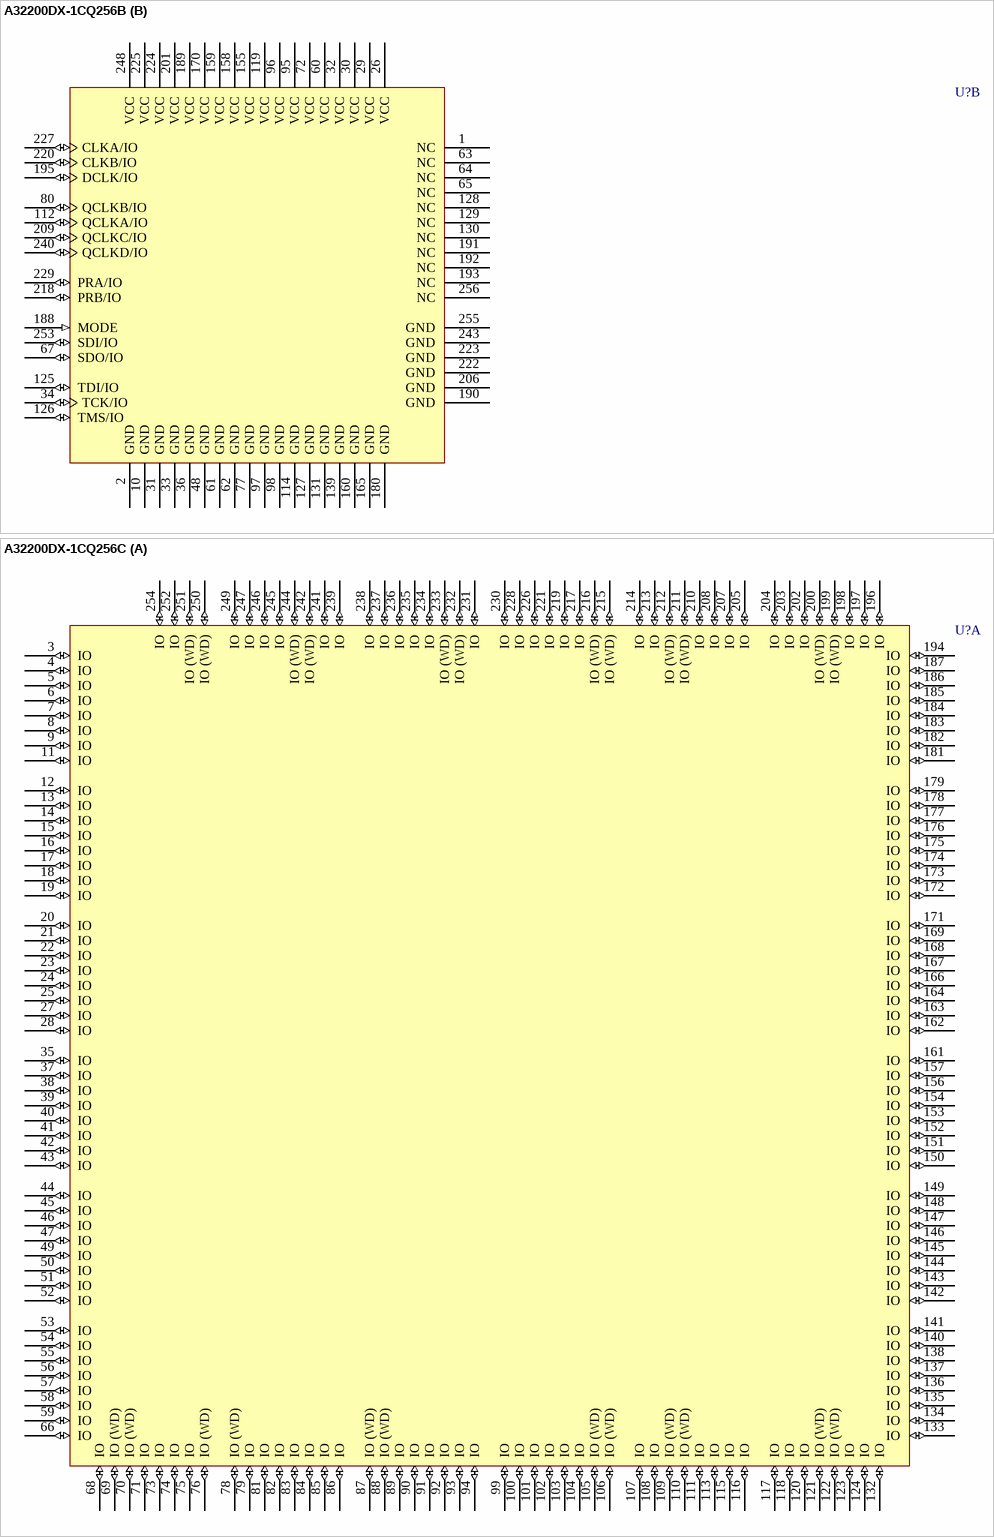
[diagram p5: symbols A32200DX-1CQ256B to A32200DX-1CQ256C]

## A32200DX-1CQ256B
designator U?
3200DX Series FPGA, 202 User I/Os, 256 pin CQFP, Speed Grade 1, MIL-STD-883 Grade; Published: 17-Sep-2003; LatestRevisionDate: 13-Apr-2006; LatestRevisionNote: IPC-7351 Footprint Added.; DatasheetVersion: ver3.0, Jan-2000; PackageVersion: v9.2, Apr-2006; PackageReference: CQ256; Publisher: Altium Limited; PackageDescription: 256-Pin Ceramic Quad Flat Pack (CQFP); Code_JEDEC: MO-134-AB; ComponentLink1Description: Manufacturer Link; ComponentLink1URL: http://www.actel.com/; ComponentLink2Description: Datasheet; ComponentLink2URL: http://www.actel.com/documents/HIRELDS.pdf
footprint CQ256_N (CQFP, 256-Leads, Body 36x36mm; Pitch 0.5mm, Gullwing Leadform, IPC Medium Density)
footprint CQ256_L (CQFP, 256-Leads, Body 36x36mm; Pitch 0.5mm, Gullwing Leadform, IPC High Density)
footprint CQ256_M (CQFP, 256-Leads, Body 36x36mm; Pitch 0.5mm, Gullwing Leadform, IPC Low Density)
3D model A32200DX-CQ256 (256-Pin Ceramic Quad Flat Pack (CQFP))
part A pins: 3 IO (io), 4 IO (io), 5 IO (io), 6 IO (io), 7 IO (io), 8 IO (io), 9 IO (io), 11 IO (io), 12 IO (io), 13 IO (io), 14 IO (io), 15 IO (io), 16 IO (io), 17 IO (io), 18 IO (io), 19 IO (io), 20 IO (io), 21 IO (io), 22 IO (io), 23 IO (io), 24 IO (io), 25 IO (io), 27 IO (io), 28 IO (io), 35 IO (io), 37 IO (io), 38 IO (io), 39 IO (io), 40 IO (io), 41 IO (io), 42 IO (io), 43 IO (io), 44 IO (io), 45 IO (io), 46 IO (io), 47 IO (io), 49 IO (io), 50 IO (io), 51 IO (io), 52 IO (io), 53 IO (io), 54 IO (io), 55 IO (io), 56 IO (io), 57 IO (io), 58 IO (io), 59 IO (io), 66 IO (io), 68 IO (io), 69 IO (WD) (io), 70 IO (WD) (io), 71 IO (io), 73 IO (io), 74 IO (io), 75 IO (io), 76 IO (WD) (io), 78 IO (WD) (io), 79 IO (io), 81 IO (io), 82 IO (io), 83 IO (io), 84 IO (io), 85 IO (io), 86 IO (io), 87 IO (WD) (io), 88 IO (WD) (io), 89 IO (io), 90 IO (io), 91 IO (io), 92 IO (io), 93 IO (io), 94 IO (io), 99 IO (io), 100 IO (io), 101 IO (io), 102 IO (io), 103 IO (io), 104 IO (io), 105 IO (WD) (io), 106 IO (WD) (io), 107 IO (io), 108 IO (io), 109 IO (WD) (io), 110 IO (WD) (io), 111 IO (io), 113 IO (io), 115 IO (io), 116 IO (io), 117 IO (io), 118 IO (io), 120 IO (io), 121 IO (WD) (io), 122 IO (WD) (io), 123 IO (io), 124 IO (io), 132 IO (io), 133 IO (io), 134 IO (io), 135 IO (io), 136 IO (io), 137 IO (io), 138 IO (io), 140 IO (io), 141 IO (io), 142 IO (io), 143 IO (io), 144 IO (io), 145 IO (io), 146 IO (io), 147 IO (io), 148 IO (io), 149 IO (io), 150 IO (io), 151 IO (io), 152 IO (io), 153 IO (io), 154 IO (io), 156 IO (io), 157 IO (io), 161 IO (io), 162 IO (io), 163 IO (io), 164 IO (io), 166 IO (io), 167 IO (io), 168 IO (io), 169 IO (io), 171 IO (io), 172 IO (io), 173 IO (io), 174 IO (io), 175 IO (io), 176 IO (io), 177 IO (io), 178 IO (io), 179 IO (io), 181 IO (io), 182 IO (io), 183 IO (io), 184 IO (io), 185 IO (io), 186 IO (io), 187 IO (io), 194 IO (io), 196 IO (io), 197 IO (io), 198 IO (io), 199 IO (WD) (io), 200 IO (WD) (io), 202 IO (io), 203 IO (io), 204 IO (io), 205 IO (io), 207 IO (io), 208 IO (io), 210 IO (io), 211 IO (WD) (io), 212 IO (WD) (io), 213 IO (io), 214 IO (io), 215 IO (WD) (io), 216 IO (WD) (io), 217 IO (io), 219 IO (io), 221 IO (io), 226 IO (io), 228 IO (io), 230 IO (io), 231 IO (io), 232 IO (WD) (io), 233 IO (WD) (io), 234 IO (io), 235 IO (io), 236 IO (io), 237 IO (io), 238 IO (io), 239 IO (io), 241 IO (io), 242 IO (WD) (io), 244 IO (WD) (io), 245 IO (io), 246 IO (io), 247 IO (io), 249 IO (io), 250 IO (WD) (io), 251 IO (WD) (io), 252 IO (io), 254 IO (io)
part B pins: 1 NC, 2 GND (power), 10 GND (power), 26 VCC (power), 29 VCC (power), 30 VCC (power), 31 GND (power), 32 VCC (power), 33 GND (power), 34 TCK/IO (io), 36 GND (power), 48 GND (power), 60 VCC (power), 61 GND (power), 62 GND (power), 63 NC, 64 NC, 65 NC, 67 SDO/IO (io), 72 VCC (power), 77 GND (power), 80 QCLKB/IO (io), 95 VCC (power), 96 VCC (power), 97 GND (power), 98 GND (power), 112 QCLKA/IO (io), 114 GND (power), 119 VCC (power), 125 TDI/IO (io), 126 TMS/IO (io), 127 GND (power), 128 NC, 129 NC, 130 NC, 131 GND (power), 139 GND (power), 155 VCC (power), 158 VCC (power), 159 VCC (power), 160 GND (power), 165 GND (power), 170 VCC (power), 180 GND (power), 188 MODE (in), 189 VCC (power), 190 GND (power), 191 NC, 192 NC, 193 NC, 195 DCLK/IO (io), 201 VCC (power), 206 GND (power), 209 QCLKC/IO (io), 218 PRB/IO (io), 220 CLKB/IO (io), 222 GND (power), 223 GND (power), 224 VCC (power), 225 VCC (power), 227 CLKA/IO (io), 229 PRA/IO (io), 240 QCLKD/IO (io), 243 GND (power), 248 VCC (power), 253 SDI/IO (io), 255 GND (power), 256 NC

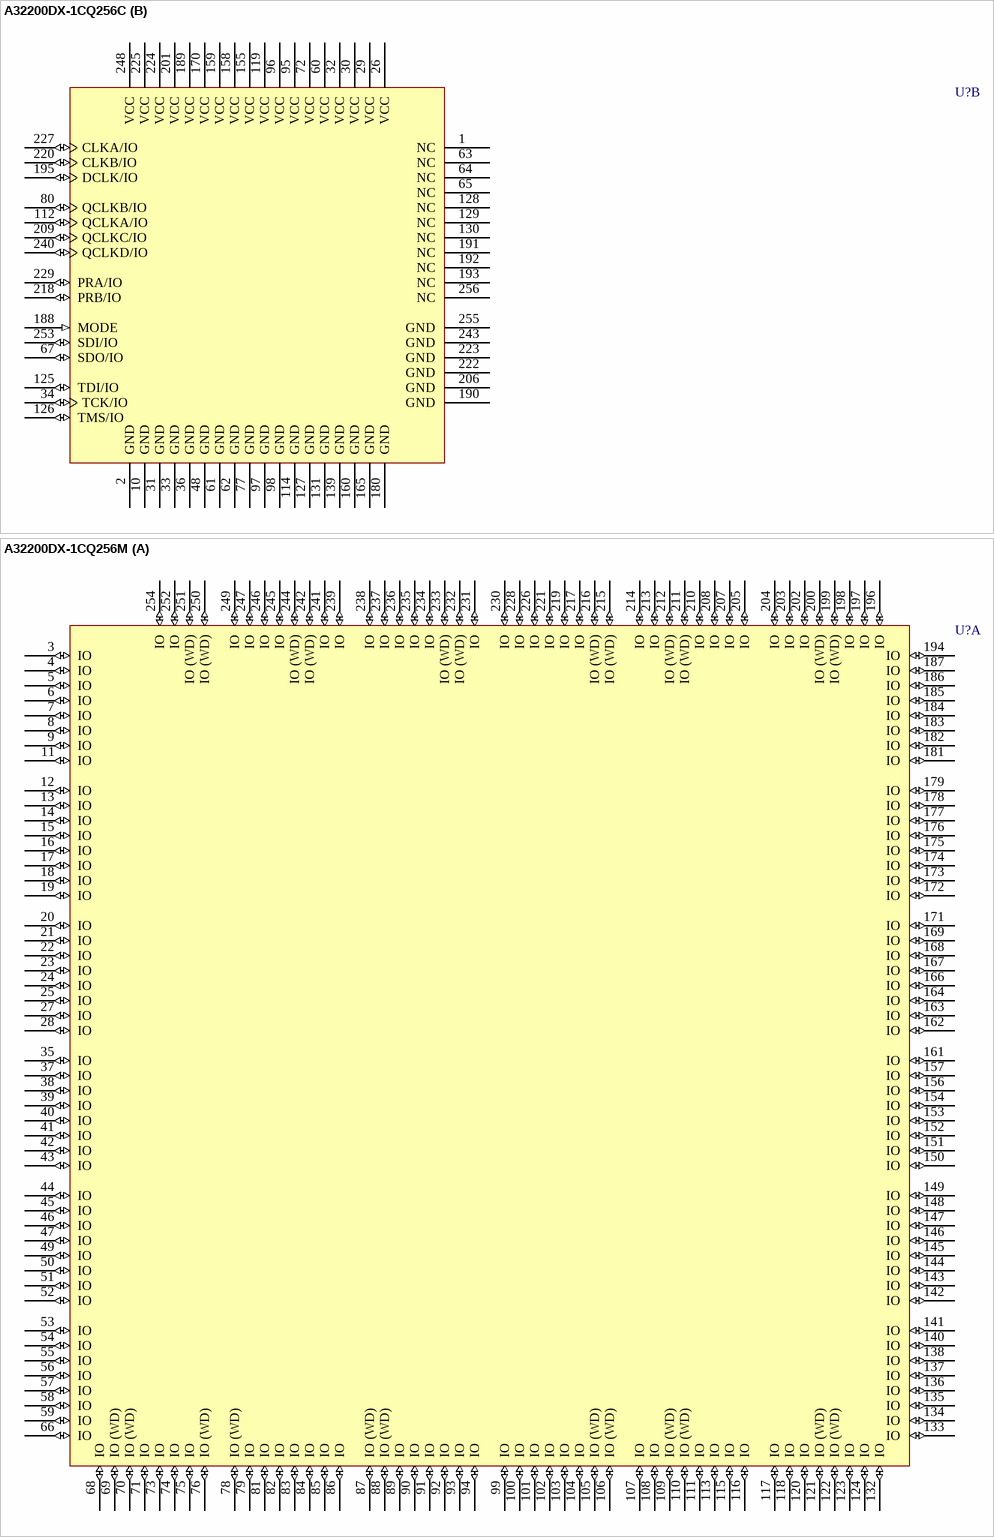
[diagram p6: symbols A32200DX-1CQ256C to A32200DX-1CQ256M]

## A32200DX-1CQ256C
designator U?
3200DX Series FPGA, 202 User I/Os, 256 pin CQFP, Speed Grade 1, Commercial Grade; Published: 17-Sep-2003; LatestRevisionDate: 13-Apr-2006; LatestRevisionNote: IPC-7351 Footprint Added.; DatasheetVersion: ver3.0, Jan-2000; PackageVersion: v9.2, Apr-2006; PackageReference: CQ256; Publisher: Altium Limited; PackageDescription: 256-Pin Ceramic Quad Flat Pack (CQFP); Code_JEDEC: MO-134-AB; ComponentLink1Description: Manufacturer Link; ComponentLink1URL: http://www.actel.com/; ComponentLink2Description: Datasheet; ComponentLink2URL: http://www.actel.com/documents/HIRELDS.pdf
footprint CQ256_N (CQFP, 256-Leads, Body 36x36mm; Pitch 0.5mm, Gullwing Leadform, IPC Medium Density)
footprint CQ256_L (CQFP, 256-Leads, Body 36x36mm; Pitch 0.5mm, Gullwing Leadform, IPC High Density)
footprint CQ256_M (CQFP, 256-Leads, Body 36x36mm; Pitch 0.5mm, Gullwing Leadform, IPC Low Density)
3D model A32200DX-CQ256 (256-Pin Ceramic Quad Flat Pack (CQFP))
part A pins: 3 IO (io), 4 IO (io), 5 IO (io), 6 IO (io), 7 IO (io), 8 IO (io), 9 IO (io), 11 IO (io), 12 IO (io), 13 IO (io), 14 IO (io), 15 IO (io), 16 IO (io), 17 IO (io), 18 IO (io), 19 IO (io), 20 IO (io), 21 IO (io), 22 IO (io), 23 IO (io), 24 IO (io), 25 IO (io), 27 IO (io), 28 IO (io), 35 IO (io), 37 IO (io), 38 IO (io), 39 IO (io), 40 IO (io), 41 IO (io), 42 IO (io), 43 IO (io), 44 IO (io), 45 IO (io), 46 IO (io), 47 IO (io), 49 IO (io), 50 IO (io), 51 IO (io), 52 IO (io), 53 IO (io), 54 IO (io), 55 IO (io), 56 IO (io), 57 IO (io), 58 IO (io), 59 IO (io), 66 IO (io), 68 IO (io), 69 IO (WD) (io), 70 IO (WD) (io), 71 IO (io), 73 IO (io), 74 IO (io), 75 IO (io), 76 IO (WD) (io), 78 IO (WD) (io), 79 IO (io), 81 IO (io), 82 IO (io), 83 IO (io), 84 IO (io), 85 IO (io), 86 IO (io), 87 IO (WD) (io), 88 IO (WD) (io), 89 IO (io), 90 IO (io), 91 IO (io), 92 IO (io), 93 IO (io), 94 IO (io), 99 IO (io), 100 IO (io), 101 IO (io), 102 IO (io), 103 IO (io), 104 IO (io), 105 IO (WD) (io), 106 IO (WD) (io), 107 IO (io), 108 IO (io), 109 IO (WD) (io), 110 IO (WD) (io), 111 IO (io), 113 IO (io), 115 IO (io), 116 IO (io), 117 IO (io), 118 IO (io), 120 IO (io), 121 IO (WD) (io), 122 IO (WD) (io), 123 IO (io), 124 IO (io), 132 IO (io), 133 IO (io), 134 IO (io), 135 IO (io), 136 IO (io), 137 IO (io), 138 IO (io), 140 IO (io), 141 IO (io), 142 IO (io), 143 IO (io), 144 IO (io), 145 IO (io), 146 IO (io), 147 IO (io), 148 IO (io), 149 IO (io), 150 IO (io), 151 IO (io), 152 IO (io), 153 IO (io), 154 IO (io), 156 IO (io), 157 IO (io), 161 IO (io), 162 IO (io), 163 IO (io), 164 IO (io), 166 IO (io), 167 IO (io), 168 IO (io), 169 IO (io), 171 IO (io), 172 IO (io), 173 IO (io), 174 IO (io), 175 IO (io), 176 IO (io), 177 IO (io), 178 IO (io), 179 IO (io), 181 IO (io), 182 IO (io), 183 IO (io), 184 IO (io), 185 IO (io), 186 IO (io), 187 IO (io), 194 IO (io), 196 IO (io), 197 IO (io), 198 IO (io), 199 IO (WD) (io), 200 IO (WD) (io), 202 IO (io), 203 IO (io), 204 IO (io), 205 IO (io), 207 IO (io), 208 IO (io), 210 IO (io), 211 IO (WD) (io), 212 IO (WD) (io), 213 IO (io), 214 IO (io), 215 IO (WD) (io), 216 IO (WD) (io), 217 IO (io), 219 IO (io), 221 IO (io), 226 IO (io), 228 IO (io), 230 IO (io), 231 IO (io), 232 IO (WD) (io), 233 IO (WD) (io), 234 IO (io), 235 IO (io), 236 IO (io), 237 IO (io), 238 IO (io), 239 IO (io), 241 IO (io), 242 IO (WD) (io), 244 IO (WD) (io), 245 IO (io), 246 IO (io), 247 IO (io), 249 IO (io), 250 IO (WD) (io), 251 IO (WD) (io), 252 IO (io), 254 IO (io)
part B pins: 1 NC, 2 GND (power), 10 GND (power), 26 VCC (power), 29 VCC (power), 30 VCC (power), 31 GND (power), 32 VCC (power), 33 GND (power), 34 TCK/IO (io), 36 GND (power), 48 GND (power), 60 VCC (power), 61 GND (power), 62 GND (power), 63 NC, 64 NC, 65 NC, 67 SDO/IO (io), 72 VCC (power), 77 GND (power), 80 QCLKB/IO (io), 95 VCC (power), 96 VCC (power), 97 GND (power), 98 GND (power), 112 QCLKA/IO (io), 114 GND (power), 119 VCC (power), 125 TDI/IO (io), 126 TMS/IO (io), 127 GND (power), 128 NC, 129 NC, 130 NC, 131 GND (power), 139 GND (power), 155 VCC (power), 158 VCC (power), 159 VCC (power), 160 GND (power), 165 GND (power), 170 VCC (power), 180 GND (power), 188 MODE (in), 189 VCC (power), 190 GND (power), 191 NC, 192 NC, 193 NC, 195 DCLK/IO (io), 201 VCC (power), 206 GND (power), 209 QCLKC/IO (io), 218 PRB/IO (io), 220 CLKB/IO (io), 222 GND (power), 223 GND (power), 224 VCC (power), 225 VCC (power), 227 CLKA/IO (io), 229 PRA/IO (io), 240 QCLKD/IO (io), 243 GND (power), 248 VCC (power), 253 SDI/IO (io), 255 GND (power), 256 NC

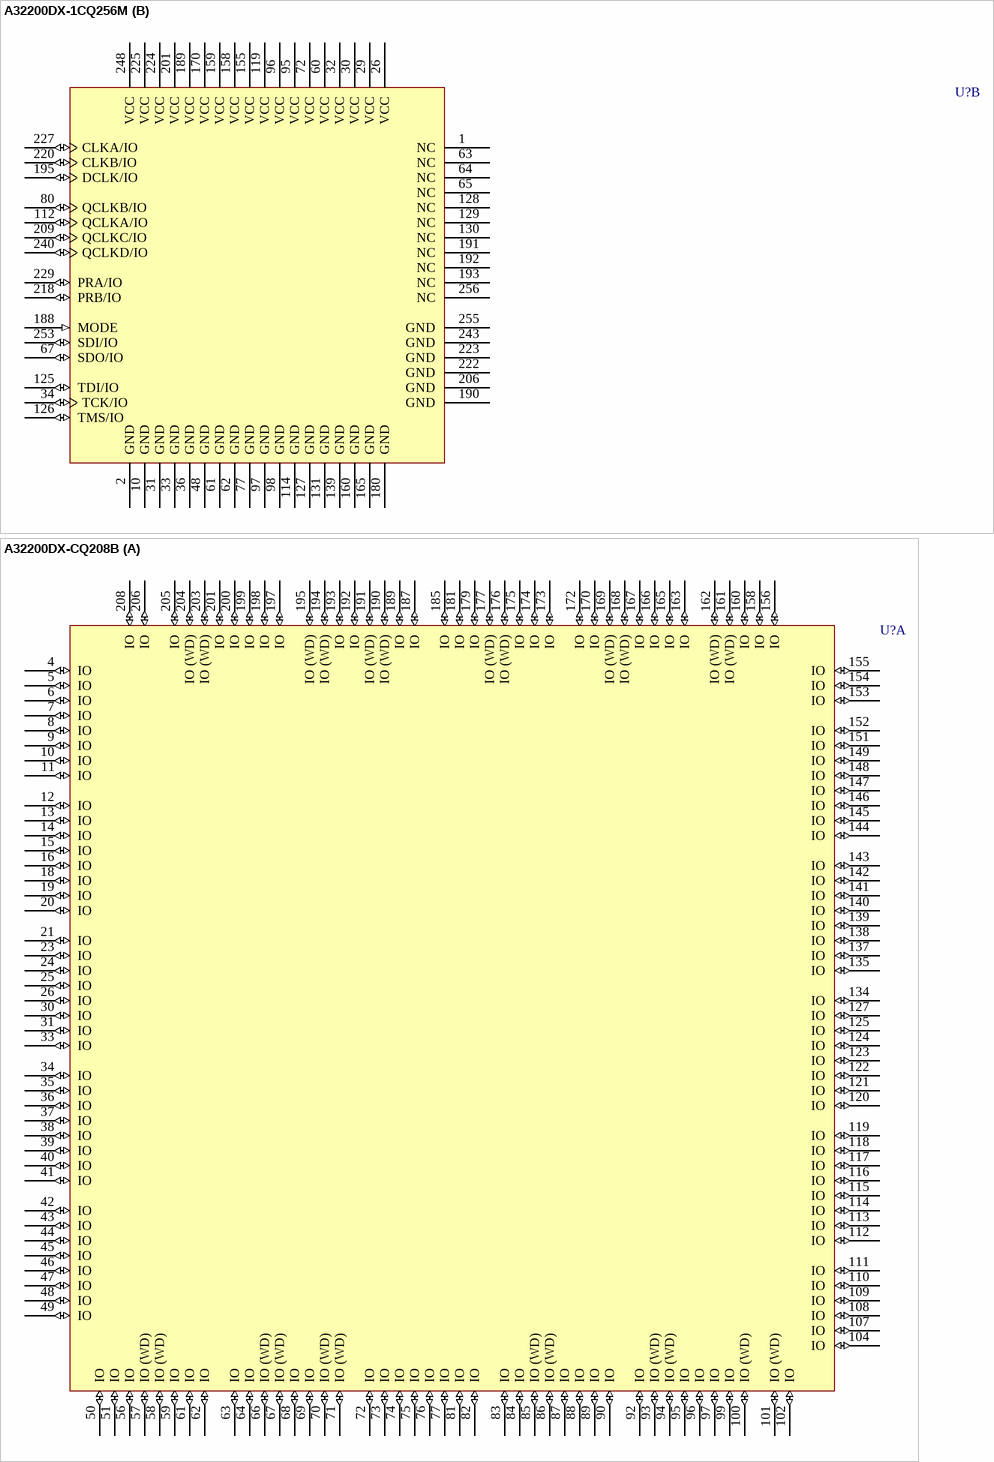
[diagram p7: symbols A32200DX-1CQ256M to A32200DX-CQ208B]

## A32200DX-1CQ256M
designator U?
3200DX Series FPGA, 202 User I/Os, 256 pin CQFP, Speed Grade 1, Military Grade; Published: 17-Sep-2003; LatestRevisionDate: 13-Apr-2006; LatestRevisionNote: IPC-7351 Footprint Added.; DatasheetVersion: ver3.0, Jan-2000; PackageVersion: v9.2, Apr-2006; PackageReference: CQ256; Publisher: Altium Limited; PackageDescription: 256-Pin Ceramic Quad Flat Pack (CQFP); Code_JEDEC: MO-134-AB; ComponentLink1Description: Manufacturer Link; ComponentLink1URL: http://www.actel.com/; ComponentLink2Description: Datasheet; ComponentLink2URL: http://www.actel.com/documents/HIRELDS.pdf
footprint CQ256_N (CQFP, 256-Leads, Body 36x36mm; Pitch 0.5mm, Gullwing Leadform, IPC Medium Density)
footprint CQ256_L (CQFP, 256-Leads, Body 36x36mm; Pitch 0.5mm, Gullwing Leadform, IPC High Density)
footprint CQ256_M (CQFP, 256-Leads, Body 36x36mm; Pitch 0.5mm, Gullwing Leadform, IPC Low Density)
3D model A32200DX-CQ256 (256-Pin Ceramic Quad Flat Pack (CQFP))
part A pins: 3 IO (io), 4 IO (io), 5 IO (io), 6 IO (io), 7 IO (io), 8 IO (io), 9 IO (io), 11 IO (io), 12 IO (io), 13 IO (io), 14 IO (io), 15 IO (io), 16 IO (io), 17 IO (io), 18 IO (io), 19 IO (io), 20 IO (io), 21 IO (io), 22 IO (io), 23 IO (io), 24 IO (io), 25 IO (io), 27 IO (io), 28 IO (io), 35 IO (io), 37 IO (io), 38 IO (io), 39 IO (io), 40 IO (io), 41 IO (io), 42 IO (io), 43 IO (io), 44 IO (io), 45 IO (io), 46 IO (io), 47 IO (io), 49 IO (io), 50 IO (io), 51 IO (io), 52 IO (io), 53 IO (io), 54 IO (io), 55 IO (io), 56 IO (io), 57 IO (io), 58 IO (io), 59 IO (io), 66 IO (io), 68 IO (io), 69 IO (WD) (io), 70 IO (WD) (io), 71 IO (io), 73 IO (io), 74 IO (io), 75 IO (io), 76 IO (WD) (io), 78 IO (WD) (io), 79 IO (io), 81 IO (io), 82 IO (io), 83 IO (io), 84 IO (io), 85 IO (io), 86 IO (io), 87 IO (WD) (io), 88 IO (WD) (io), 89 IO (io), 90 IO (io), 91 IO (io), 92 IO (io), 93 IO (io), 94 IO (io), 99 IO (io), 100 IO (io), 101 IO (io), 102 IO (io), 103 IO (io), 104 IO (io), 105 IO (WD) (io), 106 IO (WD) (io), 107 IO (io), 108 IO (io), 109 IO (WD) (io), 110 IO (WD) (io), 111 IO (io), 113 IO (io), 115 IO (io), 116 IO (io), 117 IO (io), 118 IO (io), 120 IO (io), 121 IO (WD) (io), 122 IO (WD) (io), 123 IO (io), 124 IO (io), 132 IO (io), 133 IO (io), 134 IO (io), 135 IO (io), 136 IO (io), 137 IO (io), 138 IO (io), 140 IO (io), 141 IO (io), 142 IO (io), 143 IO (io), 144 IO (io), 145 IO (io), 146 IO (io), 147 IO (io), 148 IO (io), 149 IO (io), 150 IO (io), 151 IO (io), 152 IO (io), 153 IO (io), 154 IO (io), 156 IO (io), 157 IO (io), 161 IO (io), 162 IO (io), 163 IO (io), 164 IO (io), 166 IO (io), 167 IO (io), 168 IO (io), 169 IO (io), 171 IO (io), 172 IO (io), 173 IO (io), 174 IO (io), 175 IO (io), 176 IO (io), 177 IO (io), 178 IO (io), 179 IO (io), 181 IO (io), 182 IO (io), 183 IO (io), 184 IO (io), 185 IO (io), 186 IO (io), 187 IO (io), 194 IO (io), 196 IO (io), 197 IO (io), 198 IO (io), 199 IO (WD) (io), 200 IO (WD) (io), 202 IO (io), 203 IO (io), 204 IO (io), 205 IO (io), 207 IO (io), 208 IO (io), 210 IO (io), 211 IO (WD) (io), 212 IO (WD) (io), 213 IO (io), 214 IO (io), 215 IO (WD) (io), 216 IO (WD) (io), 217 IO (io), 219 IO (io), 221 IO (io), 226 IO (io), 228 IO (io), 230 IO (io), 231 IO (io), 232 IO (WD) (io), 233 IO (WD) (io), 234 IO (io), 235 IO (io), 236 IO (io), 237 IO (io), 238 IO (io), 239 IO (io), 241 IO (io), 242 IO (WD) (io), 244 IO (WD) (io), 245 IO (io), 246 IO (io), 247 IO (io), 249 IO (io), 250 IO (WD) (io), 251 IO (WD) (io), 252 IO (io), 254 IO (io)
part B pins: 1 NC, 2 GND (power), 10 GND (power), 26 VCC (power), 29 VCC (power), 30 VCC (power), 31 GND (power), 32 VCC (power), 33 GND (power), 34 TCK/IO (io), 36 GND (power), 48 GND (power), 60 VCC (power), 61 GND (power), 62 GND (power), 63 NC, 64 NC, 65 NC, 67 SDO/IO (io), 72 VCC (power), 77 GND (power), 80 QCLKB/IO (io), 95 VCC (power), 96 VCC (power), 97 GND (power), 98 GND (power), 112 QCLKA/IO (io), 114 GND (power), 119 VCC (power), 125 TDI/IO (io), 126 TMS/IO (io), 127 GND (power), 128 NC, 129 NC, 130 NC, 131 GND (power), 139 GND (power), 155 VCC (power), 158 VCC (power), 159 VCC (power), 160 GND (power), 165 GND (power), 170 VCC (power), 180 GND (power), 188 MODE (in), 189 VCC (power), 190 GND (power), 191 NC, 192 NC, 193 NC, 195 DCLK/IO (io), 201 VCC (power), 206 GND (power), 209 QCLKC/IO (io), 218 PRB/IO (io), 220 CLKB/IO (io), 222 GND (power), 223 GND (power), 224 VCC (power), 225 VCC (power), 227 CLKA/IO (io), 229 PRA/IO (io), 240 QCLKD/IO (io), 243 GND (power), 248 VCC (power), 253 SDI/IO (io), 255 GND (power), 256 NC

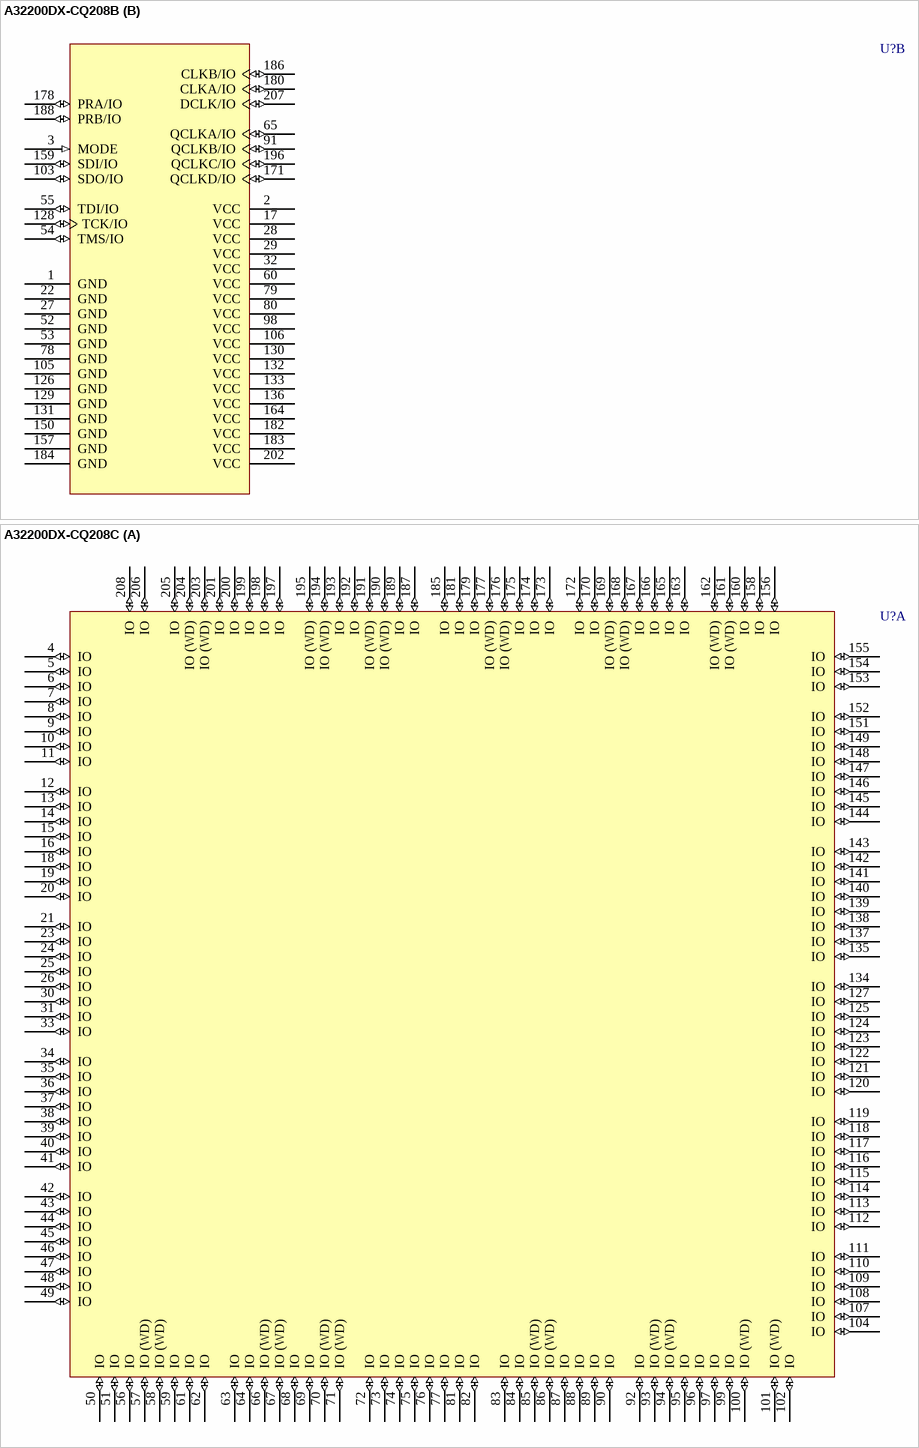
[diagram p8: symbols A32200DX-CQ208B to A32200DX-CQ208C]

## A32200DX-CQ208B
designator U?
3200DX Series FPGA, 176 User I/Os, 208 pin CQFP, Standard Speed Grade, MIL-STD-883 Grade; Published: 17-Sep-2003; LatestRevisionDate: 13-Apr-2006; LatestRevisionNote: IPC-7351 Footprint Added.; DatasheetVersion: ver3.0, Jan-2000; PackageVersion: v9.2, Apr-2006; PackageReference: CQ208; Publisher: Altium Limited; PackageDescription: 208-Pin Ceramic Quad Flat Pack (CQFP); ComponentLink1Description: Manufacturer Link; ComponentLink1URL: http://www.actel.com/; ComponentLink2Description: Datasheet; ComponentLink2URL: http://www.actel.com/documents/HIRELDS.pdf
footprint CQ208_N (CQFP, 208-Leads, Body 29x29mm; Pitch 0.5mm, Gullwing Leadform, IPC Medium Density)
footprint CQ208_L (CQFP, 208-Leads, Body 29x29mm; Pitch 0.5mm, Gullwing Leadform, IPC High Density)
footprint CQ208_M (CQFP, 208-Leads, Body 29x29mm; Pitch 0.5mm, Gullwing Leadform, IPC Low Density)
3D model A32200DX-CQ208 (208-Pin Ceramic Quad Flat Pack (CQFP))
part A pins: 4 IO (io), 5 IO (io), 6 IO (io), 7 IO (io), 8 IO (io), 9 IO (io), 10 IO (io), 11 IO (io), 12 IO (io), 13 IO (io), 14 IO (io), 15 IO (io), 16 IO (io), 18 IO (io), 19 IO (io), 20 IO (io), 21 IO (io), 23 IO (io), 24 IO (io), 25 IO (io), 26 IO (io), 30 IO (io), 31 IO (io), 33 IO (io), 34 IO (io), 35 IO (io), 36 IO (io), 37 IO (io), 38 IO (io), 39 IO (io), 40 IO (io), 41 IO (io), 42 IO (io), 43 IO (io), 44 IO (io), 45 IO (io), 46 IO (io), 47 IO (io), 48 IO (io), 49 IO (io), 50 IO (io), 51 IO (io), 56 IO (io), 57 IO (WD) (io), 58 IO (WD) (io), 59 IO (io), 61 IO (io), 62 IO (io), 63 IO (io), 64 IO (io), 66 IO (WD) (io), 67 IO (WD) (io), 68 IO (io), 69 IO (io), 70 IO (WD) (io), 71 IO (WD) (io), 72 IO (io), 73 IO (io), 74 IO (io), 75 IO (io), 76 IO (io), 77 IO (io), 81 IO (io), 82 IO (io), 83 IO (io), 84 IO (io), 85 IO (WD) (io), 86 IO (WD) (io), 87 IO (io), 88 IO (io), 89 IO (io), 90 IO (io), 92 IO (io), 93 IO (WD) (io), 94 IO (WD) (io), 95 IO (io), 96 IO (io), 97 IO (io), 99 IO (io), 100 IO (WD) (io), 101 IO (WD) (io), 102 IO (io), 104 IO (io), 107 IO (io), 108 IO (io), 109 IO (io), 110 IO (io), 111 IO (io), 112 IO (io), 113 IO (io), 114 IO (io), 115 IO (io), 116 IO (io), 117 IO (io), 118 IO (io), 119 IO (io), 120 IO (io), 121 IO (io), 122 IO (io), 123 IO (io), 124 IO (io), 125 IO (io), 127 IO (io), 134 IO (io), 135 IO (io), 137 IO (io), 138 IO (io), 139 IO (io), 140 IO (io), 141 IO (io), 142 IO (io), 143 IO (io), 144 IO (io), 145 IO (io), 146 IO (io), 147 IO (io), 148 IO (io), 149 IO (io), 151 IO (io), 152 IO (io), 153 IO (io), 154 IO (io), 155 IO (io), 156 IO (io), 158 IO (io), 160 IO (io), 161 IO (WD) (io), 162 IO (WD) (io), 163 IO (io), 165 IO (io), 166 IO (io), 167 IO (io), 168 IO (WD) (io), 169 IO (WD) (io), 170 IO (io), 172 IO (io), 173 IO (io), 174 IO (io), 175 IO (io), 176 IO (WD) (io), 177 IO (WD) (io), 179 IO (io), 181 IO (io), 185 IO (io), 187 IO (io), 189 IO (io), 190 IO (WD) (io), 191 IO (WD) (io), 192 IO (io), 193 IO (io), 194 IO (WD) (io), 195 IO (WD) (io), 197 IO (io), 198 IO (io), 199 IO (io), 200 IO (io), 201 IO (io), 203 IO (WD) (io), 204 IO (WD) (io), 205 IO (io), 206 IO (io), 208 IO (io)
part B pins: 1 GND (power), 2 VCC (power), 3 MODE (in), 17 VCC (power), 22 GND (power), 27 GND (power), 28 VCC (power), 29 VCC (power), 32 VCC (power), 52 GND (power), 53 GND (power), 54 TMS/IO (io), 55 TDI/IO (io), 60 VCC (power), 65 QCLKA/IO (io), 78 GND (power), 79 VCC (power), 80 VCC (power), 91 QCLKB/IO (io), 98 VCC (power), 103 SDO/IO (io), 105 GND (power), 106 VCC (power), 126 GND (power), 128 TCK/IO (io), 129 GND (power), 130 VCC (power), 131 GND (power), 132 VCC (power), 133 VCC (power), 136 VCC (power), 150 GND (power), 157 GND (power), 159 SDI/IO (io), 164 VCC (power), 171 QCLKD/IO (io), 178 PRA/IO (io), 180 CLKA/IO (io), 182 VCC (power), 183 VCC (power), 184 GND (power), 186 CLKB/IO (io), 188 PRB/IO (io), 196 QCLKC/IO (io), 202 VCC (power), 207 DCLK/IO (io)

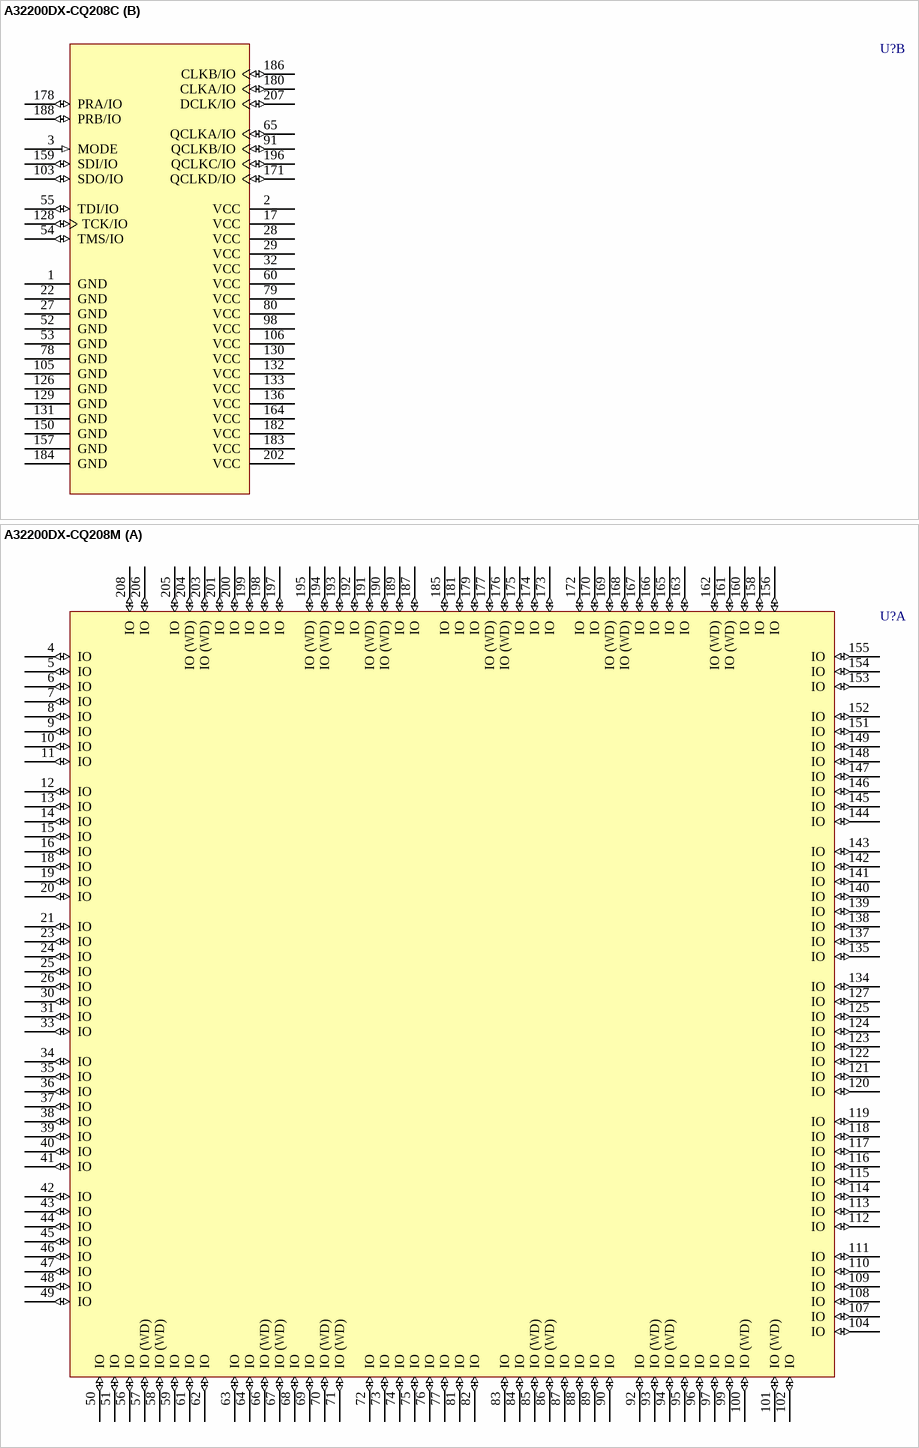
[diagram p9: symbols A32200DX-CQ208C to A32200DX-CQ208M]

## A32200DX-CQ208C
designator U?
3200DX Series FPGA, 176 User I/Os, 208 pin CQFP, Standard Speed Grade, Commercial Grade; Published: 17-Sep-2003; LatestRevisionDate: 13-Apr-2006; LatestRevisionNote: IPC-7351 Footprint Added.; DatasheetVersion: ver3.0, Jan-2000; PackageVersion: v9.2, Apr-2006; PackageReference: CQ208; Publisher: Altium Limited; PackageDescription: 208-Pin Ceramic Quad Flat Pack (CQFP); ComponentLink1Description: Manufacturer Link; ComponentLink1URL: http://www.actel.com/; ComponentLink2Description: Datasheet; ComponentLink2URL: http://www.actel.com/documents/HIRELDS.pdf
footprint CQ208_N (CQFP, 208-Leads, Body 29x29mm; Pitch 0.5mm, Gullwing Leadform, IPC Medium Density)
footprint CQ208_L (CQFP, 208-Leads, Body 29x29mm; Pitch 0.5mm, Gullwing Leadform, IPC High Density)
footprint CQ208_M (CQFP, 208-Leads, Body 29x29mm; Pitch 0.5mm, Gullwing Leadform, IPC Low Density)
3D model A32200DX-CQ208 (208-Pin Ceramic Quad Flat Pack (CQFP))
part A pins: 4 IO (io), 5 IO (io), 6 IO (io), 7 IO (io), 8 IO (io), 9 IO (io), 10 IO (io), 11 IO (io), 12 IO (io), 13 IO (io), 14 IO (io), 15 IO (io), 16 IO (io), 18 IO (io), 19 IO (io), 20 IO (io), 21 IO (io), 23 IO (io), 24 IO (io), 25 IO (io), 26 IO (io), 30 IO (io), 31 IO (io), 33 IO (io), 34 IO (io), 35 IO (io), 36 IO (io), 37 IO (io), 38 IO (io), 39 IO (io), 40 IO (io), 41 IO (io), 42 IO (io), 43 IO (io), 44 IO (io), 45 IO (io), 46 IO (io), 47 IO (io), 48 IO (io), 49 IO (io), 50 IO (io), 51 IO (io), 56 IO (io), 57 IO (WD) (io), 58 IO (WD) (io), 59 IO (io), 61 IO (io), 62 IO (io), 63 IO (io), 64 IO (io), 66 IO (WD) (io), 67 IO (WD) (io), 68 IO (io), 69 IO (io), 70 IO (WD) (io), 71 IO (WD) (io), 72 IO (io), 73 IO (io), 74 IO (io), 75 IO (io), 76 IO (io), 77 IO (io), 81 IO (io), 82 IO (io), 83 IO (io), 84 IO (io), 85 IO (WD) (io), 86 IO (WD) (io), 87 IO (io), 88 IO (io), 89 IO (io), 90 IO (io), 92 IO (io), 93 IO (WD) (io), 94 IO (WD) (io), 95 IO (io), 96 IO (io), 97 IO (io), 99 IO (io), 100 IO (WD) (io), 101 IO (WD) (io), 102 IO (io), 104 IO (io), 107 IO (io), 108 IO (io), 109 IO (io), 110 IO (io), 111 IO (io), 112 IO (io), 113 IO (io), 114 IO (io), 115 IO (io), 116 IO (io), 117 IO (io), 118 IO (io), 119 IO (io), 120 IO (io), 121 IO (io), 122 IO (io), 123 IO (io), 124 IO (io), 125 IO (io), 127 IO (io), 134 IO (io), 135 IO (io), 137 IO (io), 138 IO (io), 139 IO (io), 140 IO (io), 141 IO (io), 142 IO (io), 143 IO (io), 144 IO (io), 145 IO (io), 146 IO (io), 147 IO (io), 148 IO (io), 149 IO (io), 151 IO (io), 152 IO (io), 153 IO (io), 154 IO (io), 155 IO (io), 156 IO (io), 158 IO (io), 160 IO (io), 161 IO (WD) (io), 162 IO (WD) (io), 163 IO (io), 165 IO (io), 166 IO (io), 167 IO (io), 168 IO (WD) (io), 169 IO (WD) (io), 170 IO (io), 172 IO (io), 173 IO (io), 174 IO (io), 175 IO (io), 176 IO (WD) (io), 177 IO (WD) (io), 179 IO (io), 181 IO (io), 185 IO (io), 187 IO (io), 189 IO (io), 190 IO (WD) (io), 191 IO (WD) (io), 192 IO (io), 193 IO (io), 194 IO (WD) (io), 195 IO (WD) (io), 197 IO (io), 198 IO (io), 199 IO (io), 200 IO (io), 201 IO (io), 203 IO (WD) (io), 204 IO (WD) (io), 205 IO (io), 206 IO (io), 208 IO (io)
part B pins: 1 GND (power), 2 VCC (power), 3 MODE (in), 17 VCC (power), 22 GND (power), 27 GND (power), 28 VCC (power), 29 VCC (power), 32 VCC (power), 52 GND (power), 53 GND (power), 54 TMS/IO (io), 55 TDI/IO (io), 60 VCC (power), 65 QCLKA/IO (io), 78 GND (power), 79 VCC (power), 80 VCC (power), 91 QCLKB/IO (io), 98 VCC (power), 103 SDO/IO (io), 105 GND (power), 106 VCC (power), 126 GND (power), 128 TCK/IO (io), 129 GND (power), 130 VCC (power), 131 GND (power), 132 VCC (power), 133 VCC (power), 136 VCC (power), 150 GND (power), 157 GND (power), 159 SDI/IO (io), 164 VCC (power), 171 QCLKD/IO (io), 178 PRA/IO (io), 180 CLKA/IO (io), 182 VCC (power), 183 VCC (power), 184 GND (power), 186 CLKB/IO (io), 188 PRB/IO (io), 196 QCLKC/IO (io), 202 VCC (power), 207 DCLK/IO (io)

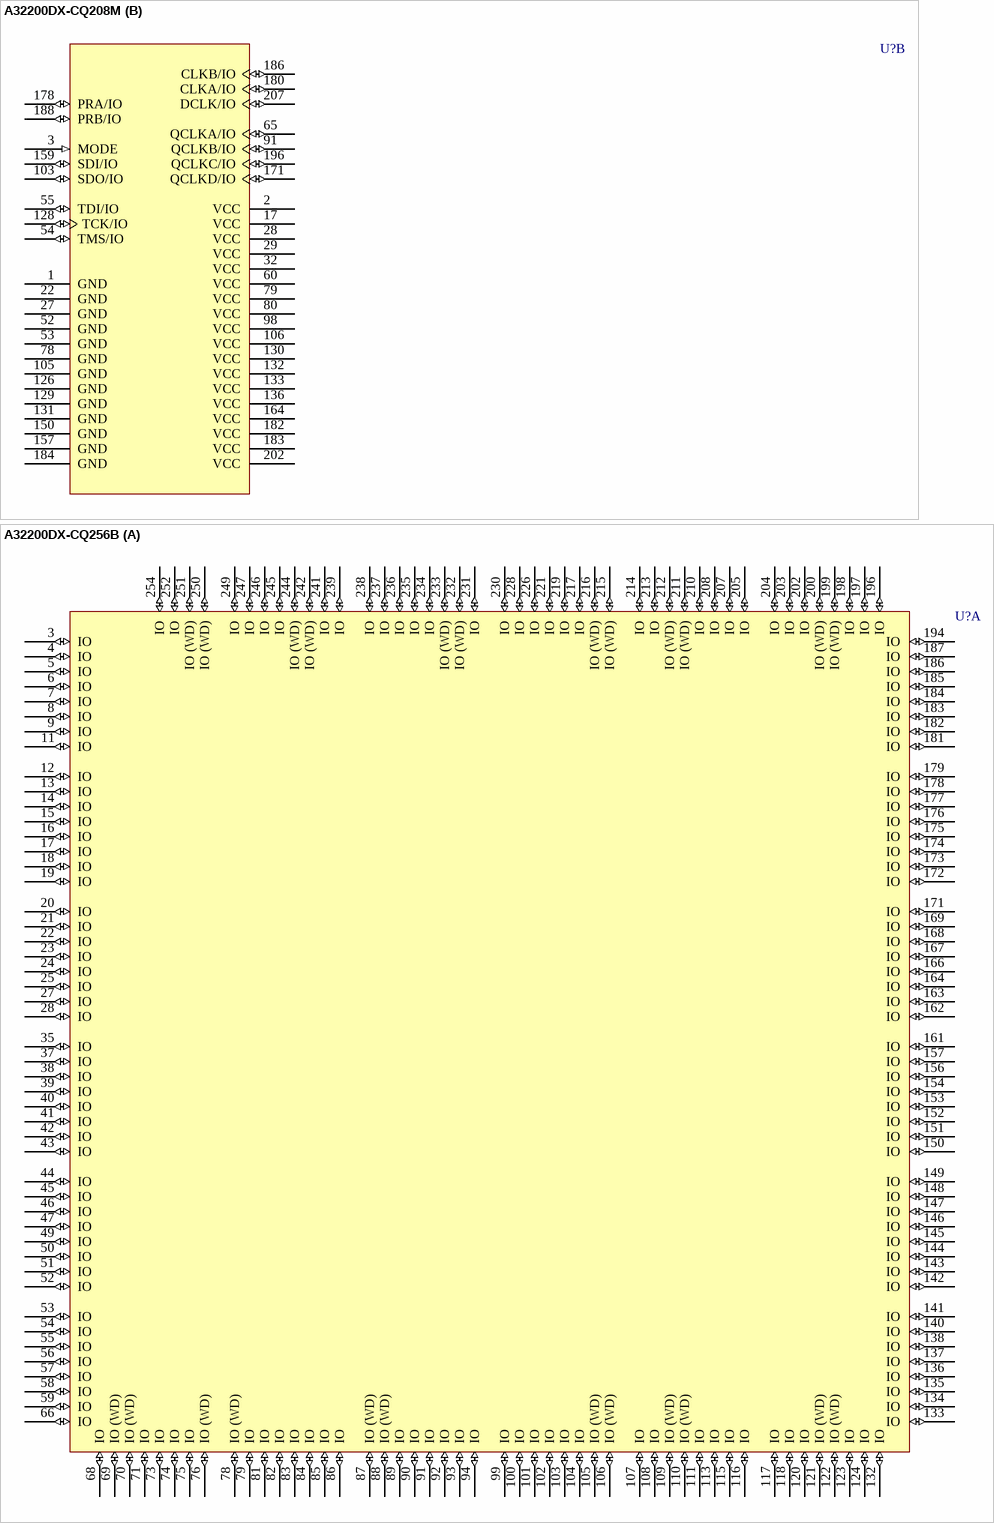
[diagram p10: symbols A32200DX-CQ208M to A32200DX-CQ256B]